# Altium schematic symbol library 2.2 - STM32 F0系列单片机.SchLib: 21 symbols (part 1 of 2)
Pins are listed as number, name and electrical type; pins without a type are passive.

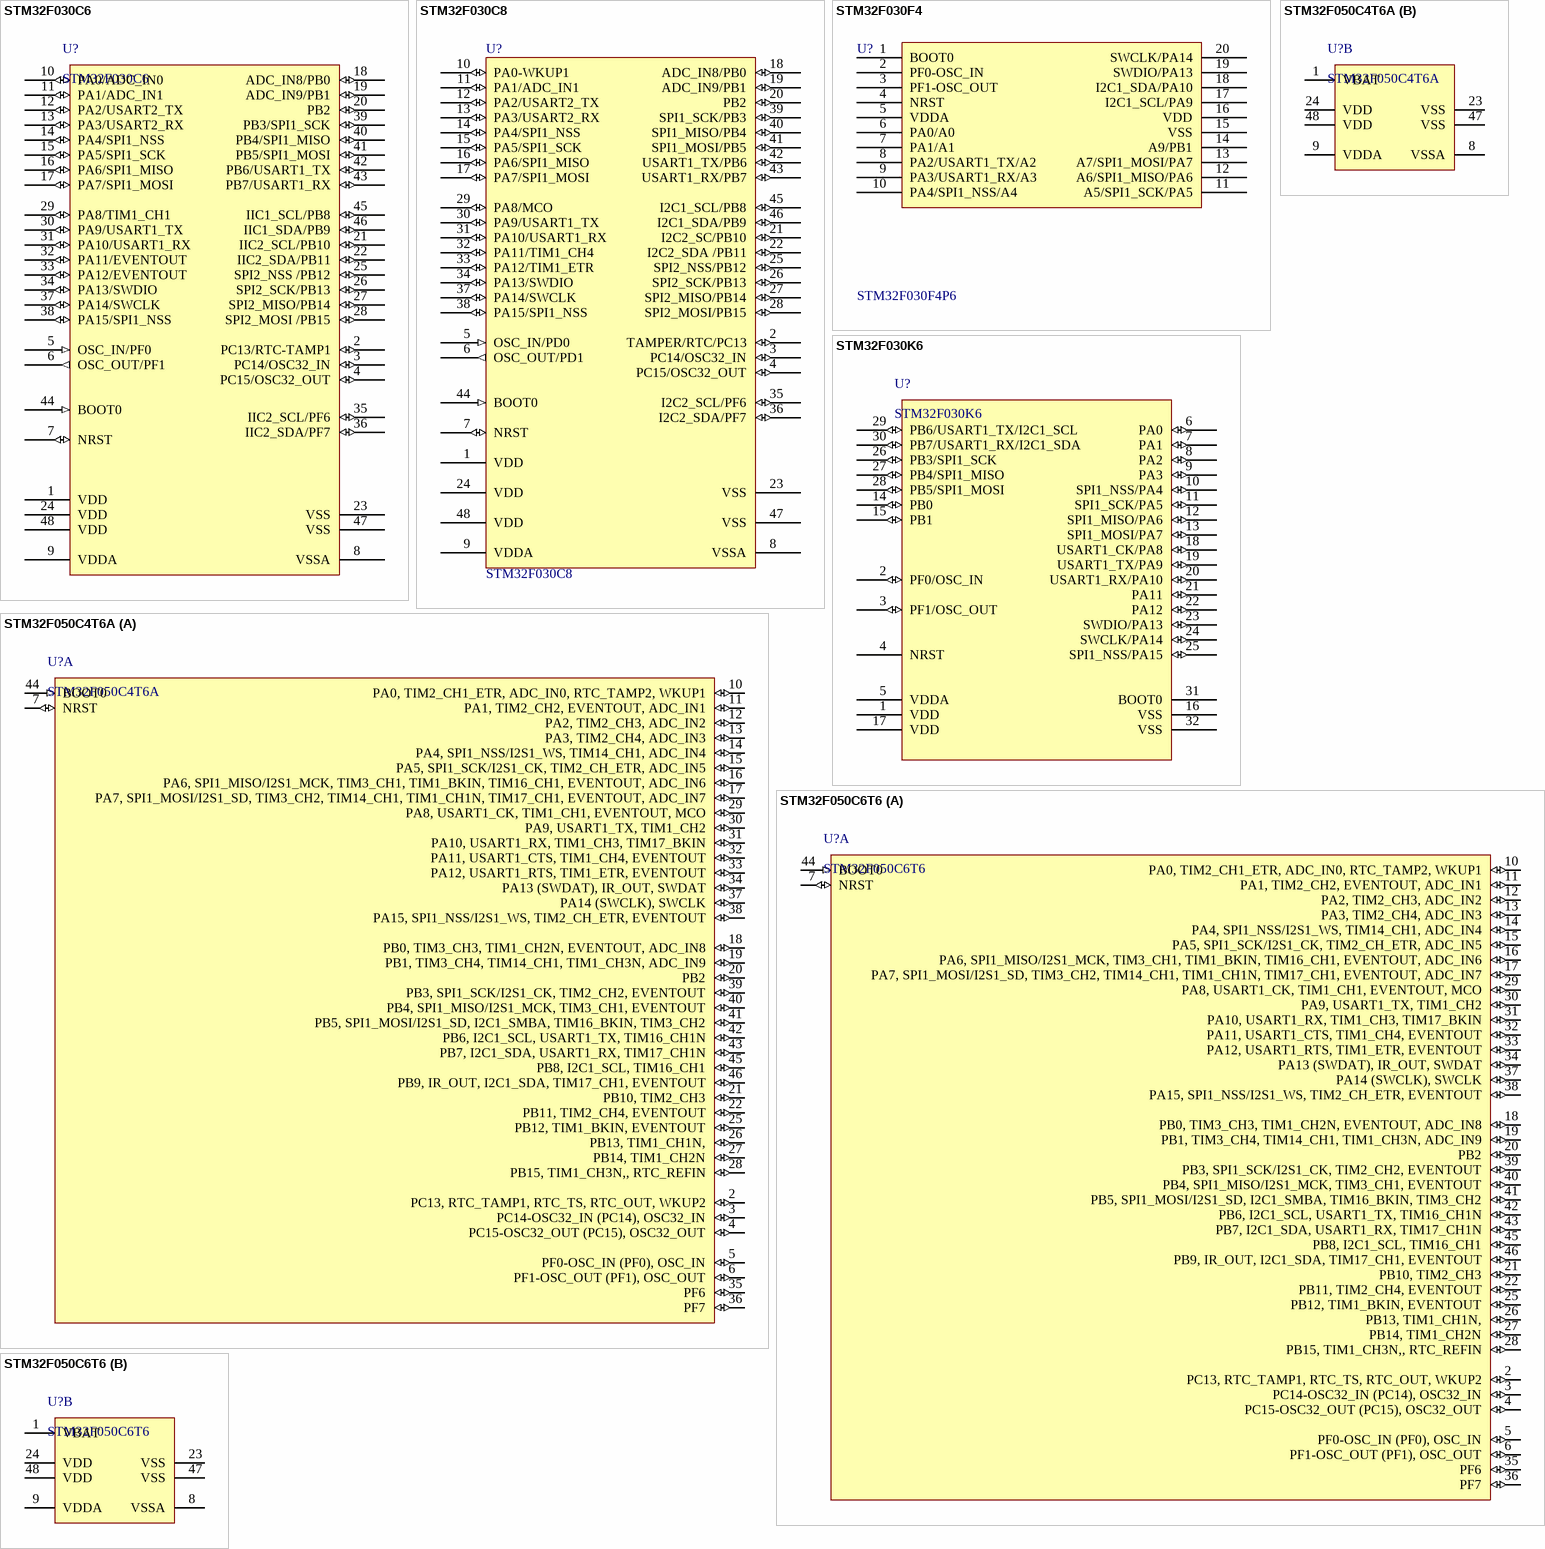
[diagram p0: symbols STM32F030C6 to STM32F050C6T6]

## STM32F030C6
designator U?
32位STM单片机; 版权归属: 源创客; BOM名称: 32位STM单片机; 学习资源: www.ooocke.com
footprint LQFP48 7X7_N (48脚，体宽7x7mm，脚距0.5mm)
footprint LQFP48 7X7_L (48脚，体宽7x7mm，脚距0.5mm)
footprint LQFP48 7X7_M (48脚，体宽7x7mm，脚距0.5mm)
pins: 1 VDD (power), 2 PC13/RTC-TAMP1 (io), 3 PC14/OSC32_IN (io), 4 PC15/OSC32_OUT (io), 5 OSC_IN/PF0 (in), 6 OSC_OUT/PF1 (out), 7 NRST (io), 8 VSSA (power), 9 VDDA (power), 10 PA0/ADC_IN0 (io), 11 PA1/ADC_IN1 (io), 12 PA2/USART2_TX (io), 13 PA3/USART2_RX (io), 14 PA4/SPI1_NSS (io), 15 PA5/SPI1_SCK (io), 16 PA6/SPI1_MISO (io), 17 PA7/SPI1_MOSI (io), 18 ADC_IN8/PB0 (io), 19 ADC_IN9/PB1 (io), 20 PB2 (io), 21 IIC2_SCL/PB10 (io), 22 IIC2_SDA/PB11 (io), 23 VSS (power), 24 VDD (power), 25 SPI2_NSS /PB12 (io), 26 SPI2_SCK/PB13 (io), 27 SPI2_MISO/PB14 (io), 28 SPI2_MOSI /PB15 (io), 29 PA8/TIM1_CH1 (io), 30 PA9/USART1_TX (io), 31 PA10/USART1_RX (io), 32 PA11/EVENTOUT (io), 33 PA12/EVENTOUT (io), 34 PA13/SWDIO (io), 35 IIC2_SCL/PF6 (io), 36 IIC2_SDA/PF7 (io), 37 PA14/SWCLK (io), 38 PA15/SPI1_NSS (io), 39 PB3/SPI1_SCK (io), 40 PB4/SPI1_MISO (io), 41 PB5/SPI1_MOSI (io), 42 PB6/USART1_TX (io), 43 PB7/USART1_RX (io), 44 BOOT0 (in), 45 IIC1_SCL/PB8 (io), 46 IIC1_SDA/PB9 (io), 47 VSS (power), 48 VDD (power)

## STM32F030C8
designator U?
Flaah:64/RAM:8/IO:39; BOM名称: 32位STM单片机; 版权归属: 源创客; 学习资源: www.ooocke.com
footprint LQFP48 7X7_N (48脚，体宽7x7mm，脚距0.5mm)
footprint LQFP48 7X7_M (48脚，体宽7x7mm，脚距0.5mm)
footprint LQFP48 7X7_L (48脚，体宽7x7mm，脚距0.5mm)
pins: 1 VDD (power), 2 TAMPER/RTC/PC13 (io), 3 PC14/OSC32_IN (io), 4 PC15/OSC32_OUT (io), 5 OSC_IN/PD0 (in), 6 OSC_OUT/PD1 (out), 7 NRST (io), 8 VSSA (power), 9 VDDA (power), 10 PA0-WKUP1 (io), 11 PA1/ADC_IN1 (io), 12 PA2/USART2_TX (io), 13 PA3/USART2_RX (io), 14 PA4/SPI1_NSS (io), 15 PA5/SPI1_SCK (io), 16 PA6/SPI1_MISO (io), 17 PA7/SPI1_MOSI (io), 18 ADC_IN8/PB0 (io), 19 ADC_IN9/PB1 (io), 20 PB2 (io), 21 I2C2_SC/PB10 (io), 22 I2C2_SDA /PB11 (io), 23 VSS (power), 24 VDD (power), 25 SPI2_NSS/PB12 (io), 26 SPI2_SCK/PB13 (io), 27 SPI2_MISO/PB14 (io), 28 SPI2_MOSI/PB15 (io), 29 PA8/MCO (io), 30 PA9/USART1_TX (io), 31 PA10/USART1_RX (io), 32 PA11/TIM1_CH4 (io), 33 PA12/TIM1_ETR (io), 34 PA13/SWDIO (io), 35 I2C2_SCL/PF6 (io), 36 I2C2_SDA/PF7 (io), 37 PA14/SWCLK (io), 38 PA15/SPI1_NSS (io), 39 SPI1_SCK/PB3 (io), 40 SPI1_MISO/PB4 (io), 41 SPI1_MOSI/PB5 (io), 42 USART1_TX/PB6 (io), 43 USART1_RX/PB7 (io), 44 BOOT0 (in), 45 I2C1_SCL/PB8 (io), 46 I2C1_SDA/PB9 (io), 47 VSS (power), 48 VDD (power)

## STM32F030F4
designator U?, comment STM32F030F4P6
Flash: 16K/RAM: 4K/IO: 15; BOM名称: 32位单片机; 版权归属: 源创客; 学习资源: www.ooocke.com
footprint TSSOP20_N (6.5*6.4*1（长宽高）)
footprint TSSOP20_L (6.5*6.4*1（长宽高）)
footprint TSSOP20_M (6.5*6.4*1（长宽高）)
pins: 1 BOOT0, 2 PF0-OSC_IN, 3 PF1-OSC_OUT, 4 NRST, 5 VDDA, 6 PA0/A0, 7 PA1/A1, 8 PA2/USART1_TX/A2, 9 PA3/USART1_RX/A3, 10 PA4/SPI1_NSS/A4, 11 A5/SPI1_SCK/PA5, 12 A6/SPI1_MISO/PA6, 13 A7/SPI1_MOSI/PA7, 14 A9/PB1, 15 VSS, 16 VDD, 17 I2C1_SCL/PA9, 18 I2C1_SDA/PA10, 19 SWDIO/PA13, 20 SWCLK/PA14

## STM32F030K6
designator U?
32位STM单片机; 版权归属: 源创客; BOM名称: 32位STM单片机; 学习资源: www.ooocke.com
footprint LQFP32 7X7_L (32脚，体宽7x7mm，脚距0.8mm)
footprint LQFP32 7X7_M (32脚，体宽7x7mm，脚距0.8mm)
footprint LQFP32 7X7_N (32脚，体宽7x7mm，脚距0.8mm)
pins: 1 VDD (power), 2 PF0/OSC_IN (io), 3 PF1/OSC_OUT (io), 4 NRST, 5 VDDA, 6 PA0 (io), 7 PA1 (io), 8 PA2 (io), 9 PA3 (io), 10 SPI1_NSS/PA4 (io), 11 SPI1_SCK/PA5 (io), 12 SPI1_MISO/PA6 (io), 13 SPI1_MOSI/PA7 (io), 14 PB0 (io), 15 PB1 (io), 16 VSS, 17 VDD, 18 USART1_CK/PA8 (io), 19 USART1_TX/PA9 (io), 20 USART1_RX/PA10 (io), 21 PA11 (io), 22 PA12 (io), 23 SWDIO/PA13 (io), 24 SWCLK/PA14 (io), 25 SPI1_NSS/PA15 (io), 26 PB3/SPI1_SCK (io), 27 PB4/SPI1_MISO (io), 28 PB5/SPI1_MOSI (io), 29 PB6/USART1_TX/I2C1_SCL (io), 30 PB7/USART1_RX/I2C1_SDA (io), 31 BOOT0, 32 VSS

## STM32F050C4T6A
designator U?
ARM Cortex-M0 32-bit RISC core (48 MHz max), 16kB Flash, 4 kB Internal RAM, 39 High Current I/Os, -40 to +85癈, 48-Pin LQFP, Tray; 16-bit timers (IC/OC/PWM): 5x16-bit; 32-bit timer (IC/OC/PWM): 1x32-bit; Other timer functions: 2 x WDG, RTC, 24-bit down counter; A/D Converter: 10x12-bit; Serial Interface: 1xSPI;1xI2S;1xI2C;1xUSART(IrDA, ISO 7816); Supply Current(Icc) (Lowest power mode) typ (礎): 1.65; Supply Current(Icc) (Run mode (per Mhz)) typ (礎): 250; DatasheetVersion: rev2, Feb-2012; PackageVersion: rev13, Apr-2011; PackageReference: LQFP48; PackageDescription: 48-Pin Low-Profile Quad Flat Pack, 7 x 7 mm Body, 0.5 mm Pitch (LQFP48); ComponentLink1Description: Manufacturer URL; ComponentLink1URL: 封装库来自淘宝卖家 ID：黄晶宝石; ComponentLink2Description: Datasheet; ComponentLink2URL: http://www.st.com/internet/com/TECHNICAL_RESOURCES/TECHNICAL_LITERATURE/DATA_BRIEF/DM00047078.pdf; ComponentLink3Description: STM32F0 Web Page; ComponentLink3URL: http://www.st.com/internet/mcu/subclass/1588.jsp
footprint LQFP48_N (Thin QFP, 48-Leads, Body 7x7mm, Pitch 0.5mm, IPC Medium Density)
footprint LQFP48_L (Thin QFP, 48-Leads, Body 7x7mm, Pitch 0.5mm, IPC High Density)
footprint LQFP48_M (Thin QFP, 48-Leads, Body 7x7mm, Pitch 0.5mm, IPC Low Density)
part A pins: 2 PC13, RTC_TAMP1, RTC_TS, RTC_OUT, WKUP2 (io), 3 PC14-OSC32_IN (PC14), OSC32_IN (io), 4 PC15-OSC32_OUT (PC15), OSC32_OUT (io), 5 PF0-OSC_IN (PF0), OSC_IN (io), 6 PF1-OSC_OUT (PF1), OSC_OUT (io), 7 NRST (io), 10 PA0, TIM2_CH1_ETR, ADC_IN0, RTC_TAMP2, WKUP1 (io), 11 PA1, TIM2_CH2, EVENTOUT, ADC_IN1 (io), 12 PA2, TIM2_CH3, ADC_IN2 (io), 13 PA3, TIM2_CH4, ADC_IN3 (io), 14 PA4, SPI1_NSS/I2S1_WS, TIM14_CH1, ADC_IN4 (io), 15 PA5, SPI1_SCK/I2S1_CK, TIM2_CH_ETR, ADC_IN5 (io), 16 PA6, SPI1_MISO/I2S1_MCK, TIM3_CH1, TIM1_BKIN, TIM16_CH1, EVENTOUT, ADC_IN6 (io), 17 PA7, SPI1_MOSI/I2S1_SD, TIM3_CH2, TIM14_CH1, TIM1_CH1N, TIM17_CH1, EVENTOUT, ADC_IN7 (io), 18 PB0, TIM3_CH3, TIM1_CH2N, EVENTOUT, ADC_IN8 (io), 19 PB1, TIM3_CH4, TIM14_CH1, TIM1_CH3N, ADC_IN9 (io), 20 PB2 (io), 21 PB10, TIM2_CH3 (io), 22 PB11, TIM2_CH4, EVENTOUT (io), 25 PB12, TIM1_BKIN, EVENTOUT (io), 26 PB13, TIM1_CH1N, (io), 27 PB14, TIM1_CH2N (io), 28 PB15, TIM1_CH3N,, RTC_REFIN (io), 29 PA8, USART1_CK, TIM1_CH1, EVENTOUT, MCO (io), 30 PA9, USART1_TX, TIM1_CH2 (io), 31 PA10, USART1_RX, TIM1_CH3, TIM17_BKIN (io), 32 PA11, USART1_CTS, TIM1_CH4, EVENTOUT (io), 33 PA12, USART1_RTS, TIM1_ETR, EVENTOUT (io), 34 PA13 (SWDAT), IR_OUT, SWDAT (io), 35 PF6 (io), 36 PF7 (io), 37 PA14 (SWCLK), SWCLK (io), 38 PA15, SPI1_NSS/I2S1_WS, TIM2_CH_ETR, EVENTOUT (io), 39 PB3, SPI1_SCK/I2S1_CK, TIM2_CH2, EVENTOUT (io), 40 PB4, SPI1_MISO/I2S1_MCK, TIM3_CH1, EVENTOUT (io), 41 PB5, SPI1_MOSI/I2S1_SD, I2C1_SMBA, TIM16_BKIN, TIM3_CH2 (io), 42 PB6, I2C1_SCL, USART1_TX, TIM16_CH1N (io), 43 PB7, I2C1_SDA, USART1_RX, TIM17_CH1N (io), 44 BOOT0 (in), 45 PB8, I2C1_SCL, TIM16_CH1 (io), 46 PB9, IR_OUT, I2C1_SDA, TIM17_CH1, EVENTOUT (io)
part B pins: 1 VBAT (power), 8 VSSA (power), 9 VDDA (power), 23 VSS (power), 24 VDD (power), 47 VSS (power), 48 VDD (power)

## STM32F050C6T6
designator U?
ARM Cortex-M0 32-bit RISC core (48 MHz max), 32kB Flash, 4 kB Internal RAM, 39 High Current I/Os, -40 to +85癈, 48-Pin LQFP, Tray; 16-bit timers (IC/OC/PWM): 5x16-bit; 32-bit timer (IC/OC/PWM): 1x32-bit; Other timer functions: 2 x WDG, RTC, 24-bit down counter; A/D Converter: 10x12-bit; Serial Interface: 1xSPI;1xI2S;1xI2C;1xUSART(IrDA, ISO 7816); Supply Current(Icc) (Lowest power mode) typ (礎): 1.65; Supply Current(Icc) (Run mode (per Mhz)) typ (礎): 250; DatasheetVersion: rev2, Feb-2012; PackageVersion: rev13, Apr-2011; PackageReference: LQFP48; PackageDescription: 48-Pin Low-Profile Quad Flat Pack, 7 x 7 mm Body, 0.5 mm Pitch (LQFP48); ComponentLink1Description: Manufacturer URL; ComponentLink1URL: https://shop463601444.taobao.com; ComponentLink2Description: Datasheet; ComponentLink2URL: http://www.st.com/internet/com/TECHNICAL_RESOURCES/TECHNICAL_LITERATURE/DATA_BRIEF/DM00047078.pdf; ComponentLink3Description: STM32F0 Web Page; ComponentLink3URL: http://www.st.com/internet/mcu/subclass/1588.jsp
footprint LQFP48_N (Thin QFP, 48-Leads, Body 7x7mm, Pitch 0.5mm, IPC Medium Density)
footprint LQFP48_L (Thin QFP, 48-Leads, Body 7x7mm, Pitch 0.5mm, IPC High Density)
footprint LQFP48_M (Thin QFP, 48-Leads, Body 7x7mm, Pitch 0.5mm, IPC Low Density)
part A pins: 2 PC13, RTC_TAMP1, RTC_TS, RTC_OUT, WKUP2 (io), 3 PC14-OSC32_IN (PC14), OSC32_IN (io), 4 PC15-OSC32_OUT (PC15), OSC32_OUT (io), 5 PF0-OSC_IN (PF0), OSC_IN (io), 6 PF1-OSC_OUT (PF1), OSC_OUT (io), 7 NRST (io), 10 PA0, TIM2_CH1_ETR, ADC_IN0, RTC_TAMP2, WKUP1 (io), 11 PA1, TIM2_CH2, EVENTOUT, ADC_IN1 (io), 12 PA2, TIM2_CH3, ADC_IN2 (io), 13 PA3, TIM2_CH4, ADC_IN3 (io), 14 PA4, SPI1_NSS/I2S1_WS, TIM14_CH1, ADC_IN4 (io), 15 PA5, SPI1_SCK/I2S1_CK, TIM2_CH_ETR, ADC_IN5 (io), 16 PA6, SPI1_MISO/I2S1_MCK, TIM3_CH1, TIM1_BKIN, TIM16_CH1, EVENTOUT, ADC_IN6 (io), 17 PA7, SPI1_MOSI/I2S1_SD, TIM3_CH2, TIM14_CH1, TIM1_CH1N, TIM17_CH1, EVENTOUT, ADC_IN7 (io), 18 PB0, TIM3_CH3, TIM1_CH2N, EVENTOUT, ADC_IN8 (io), 19 PB1, TIM3_CH4, TIM14_CH1, TIM1_CH3N, ADC_IN9 (io), 20 PB2 (io), 21 PB10, TIM2_CH3 (io), 22 PB11, TIM2_CH4, EVENTOUT (io), 25 PB12, TIM1_BKIN, EVENTOUT (io), 26 PB13, TIM1_CH1N, (io), 27 PB14, TIM1_CH2N (io), 28 PB15, TIM1_CH3N,, RTC_REFIN (io), 29 PA8, USART1_CK, TIM1_CH1, EVENTOUT, MCO (io), 30 PA9, USART1_TX, TIM1_CH2 (io), 31 PA10, USART1_RX, TIM1_CH3, TIM17_BKIN (io), 32 PA11, USART1_CTS, TIM1_CH4, EVENTOUT (io), 33 PA12, USART1_RTS, TIM1_ETR, EVENTOUT (io), 34 PA13 (SWDAT), IR_OUT, SWDAT (io), 35 PF6 (io), 36 PF7 (io), 37 PA14 (SWCLK), SWCLK (io), 38 PA15, SPI1_NSS/I2S1_WS, TIM2_CH_ETR, EVENTOUT (io), 39 PB3, SPI1_SCK/I2S1_CK, TIM2_CH2, EVENTOUT (io), 40 PB4, SPI1_MISO/I2S1_MCK, TIM3_CH1, EVENTOUT (io), 41 PB5, SPI1_MOSI/I2S1_SD, I2C1_SMBA, TIM16_BKIN, TIM3_CH2 (io), 42 PB6, I2C1_SCL, USART1_TX, TIM16_CH1N (io), 43 PB7, I2C1_SDA, USART1_RX, TIM17_CH1N (io), 44 BOOT0 (in), 45 PB8, I2C1_SCL, TIM16_CH1 (io), 46 PB9, IR_OUT, I2C1_SDA, TIM17_CH1, EVENTOUT (io)
part B pins: 1 VBAT (power), 8 VSSA (power), 9 VDDA (power), 23 VSS (power), 24 VDD (power), 47 VSS (power), 48 VDD (power)

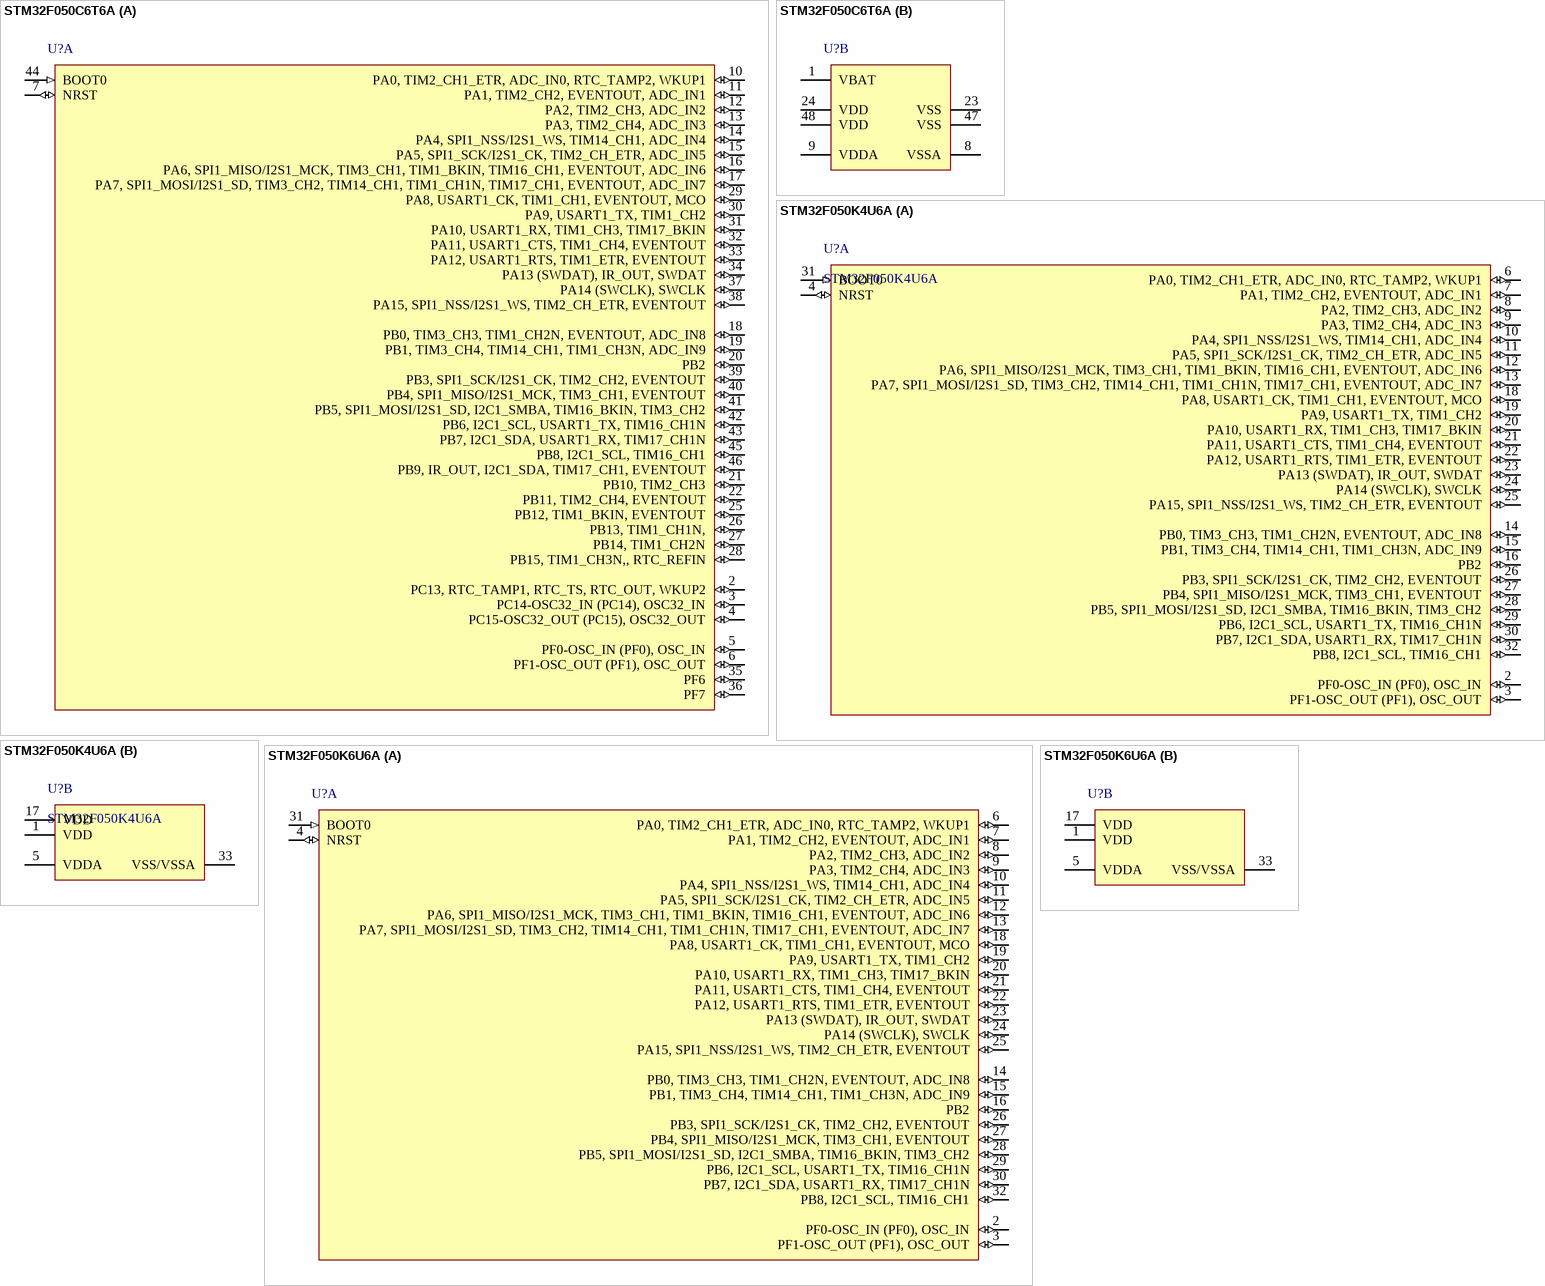
[diagram p1: symbols STM32F050C6T6A to STM32F050K6U6A]

## STM32F050C6T6A
designator U?
ARM Cortex-M0 32-bit RISC core (48 MHz max), 32kB Flash, 4 kB Internal RAM, 39 High Current I/Os, -40 to +85癈, 48-Pin LQFP, Tray; 16-bit timers (IC/OC/PWM): 5x16-bit; 32-bit timer (IC/OC/PWM): 1x32-bit; Other timer functions: 2 x WDG, RTC, 24-bit down counter; A/D Converter: 10x12-bit; Serial Interface: 1xSPI;1xI2S;1xI2C;1xUSART(IrDA, ISO 7816); Supply Current(Icc) (Lowest power mode) typ (礎): 1.65; Supply Current(Icc) (Run mode (per Mhz)) typ (礎): 250; DatasheetVersion: rev2, Feb-2012; PackageVersion: rev13, Apr-2011; PackageReference: LQFP48; PackageDescription: 48-Pin Low-Profile Quad Flat Pack, 7 x 7 mm Body, 0.5 mm Pitch (LQFP48); ComponentLink1Description: Manufacturer URL; ComponentLink1URL: http://www.st.com/; ComponentLink2Description: Datasheet; ComponentLink2URL: http://www.st.com/internet/com/TECHNICAL_RESOURCES/TECHNICAL_LITERATURE/DATA_BRIEF/DM00047078.pdf; ComponentLink3Description: STM32F0 Web Page; ComponentLink3URL: http://www.st.com/internet/mcu/subclass/1588.jsp
footprint LQFP48_N (Thin QFP, 48-Leads, Body 7x7mm, Pitch 0.5mm, IPC Medium Density)
footprint LQFP48_L (Thin QFP, 48-Leads, Body 7x7mm, Pitch 0.5mm, IPC High Density)
footprint LQFP48_M (Thin QFP, 48-Leads, Body 7x7mm, Pitch 0.5mm, IPC Low Density)
part A pins: 2 PC13, RTC_TAMP1, RTC_TS, RTC_OUT, WKUP2 (io), 3 PC14-OSC32_IN (PC14), OSC32_IN (io), 4 PC15-OSC32_OUT (PC15), OSC32_OUT (io), 5 PF0-OSC_IN (PF0), OSC_IN (io), 6 PF1-OSC_OUT (PF1), OSC_OUT (io), 7 NRST (io), 10 PA0, TIM2_CH1_ETR, ADC_IN0, RTC_TAMP2, WKUP1 (io), 11 PA1, TIM2_CH2, EVENTOUT, ADC_IN1 (io), 12 PA2, TIM2_CH3, ADC_IN2 (io), 13 PA3, TIM2_CH4, ADC_IN3 (io), 14 PA4, SPI1_NSS/I2S1_WS, TIM14_CH1, ADC_IN4 (io), 15 PA5, SPI1_SCK/I2S1_CK, TIM2_CH_ETR, ADC_IN5 (io), 16 PA6, SPI1_MISO/I2S1_MCK, TIM3_CH1, TIM1_BKIN, TIM16_CH1, EVENTOUT, ADC_IN6 (io), 17 PA7, SPI1_MOSI/I2S1_SD, TIM3_CH2, TIM14_CH1, TIM1_CH1N, TIM17_CH1, EVENTOUT, ADC_IN7 (io), 18 PB0, TIM3_CH3, TIM1_CH2N, EVENTOUT, ADC_IN8 (io), 19 PB1, TIM3_CH4, TIM14_CH1, TIM1_CH3N, ADC_IN9 (io), 20 PB2 (io), 21 PB10, TIM2_CH3 (io), 22 PB11, TIM2_CH4, EVENTOUT (io), 25 PB12, TIM1_BKIN, EVENTOUT (io), 26 PB13, TIM1_CH1N, (io), 27 PB14, TIM1_CH2N (io), 28 PB15, TIM1_CH3N,, RTC_REFIN (io), 29 PA8, USART1_CK, TIM1_CH1, EVENTOUT, MCO (io), 30 PA9, USART1_TX, TIM1_CH2 (io), 31 PA10, USART1_RX, TIM1_CH3, TIM17_BKIN (io), 32 PA11, USART1_CTS, TIM1_CH4, EVENTOUT (io), 33 PA12, USART1_RTS, TIM1_ETR, EVENTOUT (io), 34 PA13 (SWDAT), IR_OUT, SWDAT (io), 35 PF6 (io), 36 PF7 (io), 37 PA14 (SWCLK), SWCLK (io), 38 PA15, SPI1_NSS/I2S1_WS, TIM2_CH_ETR, EVENTOUT (io), 39 PB3, SPI1_SCK/I2S1_CK, TIM2_CH2, EVENTOUT (io), 40 PB4, SPI1_MISO/I2S1_MCK, TIM3_CH1, EVENTOUT (io), 41 PB5, SPI1_MOSI/I2S1_SD, I2C1_SMBA, TIM16_BKIN, TIM3_CH2 (io), 42 PB6, I2C1_SCL, USART1_TX, TIM16_CH1N (io), 43 PB7, I2C1_SDA, USART1_RX, TIM17_CH1N (io), 44 BOOT0 (in), 45 PB8, I2C1_SCL, TIM16_CH1 (io), 46 PB9, IR_OUT, I2C1_SDA, TIM17_CH1, EVENTOUT (io)
part B pins: 1 VBAT (power), 8 VSSA (power), 9 VDDA (power), 23 VSS (power), 24 VDD (power), 47 VSS (power), 48 VDD (power)

## STM32F050K4U6A
designator U?
ARM Cortex-M0 32-bit RISC core (48 MHz max), 16kB Flash, 4 kB Internal RAM, 27 High Current I/Os, -40 to +85癈, 32-Pin UFQFPN, Tray; 16-bit timers (IC/OC/PWM): 5x16-bit; 32-bit timer (IC/OC/PWM): 1x32-bit; Other timer functions: 2 x WDG, RTC, 24-bit down counter; A/D Converter: 10x12-bit; Serial Interface: 1xSPI;1xI2S;1xI2C;1xUSART(IrDA, ISO 7816); Supply Current(Icc) (Lowest power mode) typ (礎): 1.65; Supply Current(Icc) (Run mode (per Mhz)) typ (礎): 250; DatasheetVersion: rev2, Feb-2012; PackageVersion: 2010; PackageReference: UFQFPN32; PackageDescription: 32-Pin Ultra Thin Fine Pitch Quad Flat No-Lead, 5 x 5 X 0.6 mm Body, 0.5 mm Pitch, Exposed Pad; ComponentLink1Description: Manufacturer URL; ComponentLink1URL: https://shop463601444.taobao.com; ComponentLink2Description: Datasheet; ComponentLink2URL: http://www.st.com/internet/com/TECHNICAL_RESOURCES/TECHNICAL_LITERATURE/DATA_BRIEF/DM00047078.pdf; ComponentLink3Description: STM32F0 Web Page; ComponentLink3URL: http://www.st.com/internet/mcu/subclass/1588.jsp
footprint UFQFPN32_N (QFN, 32-Leads, Body 5x5mm, Pitch 0.5mm, Thermal Pad 3.6x3.6mm, IPC Medium Density)
footprint UFQFPN32_L (QFN, 32-Leads, Body 5x5mm, Pitch 0.5mm, Thermal Pad 3.6x3.6mm, IPC High Density)
footprint UFQFPN32_M (QFN, 32-Leads, Body 5x5mm, Pitch 0.5mm, Thermal Pad 3.6x3.6mm, IPC Low Density)
part A pins: 2 PF0-OSC_IN (PF0), OSC_IN (io), 3 PF1-OSC_OUT (PF1), OSC_OUT (io), 4 NRST (io), 6 PA0, TIM2_CH1_ETR, ADC_IN0, RTC_TAMP2, WKUP1 (io), 7 PA1, TIM2_CH2, EVENTOUT, ADC_IN1 (io), 8 PA2, TIM2_CH3, ADC_IN2 (io), 9 PA3, TIM2_CH4, ADC_IN3 (io), 10 PA4, SPI1_NSS/I2S1_WS, TIM14_CH1, ADC_IN4 (io), 11 PA5, SPI1_SCK/I2S1_CK, TIM2_CH_ETR, ADC_IN5 (io), 12 PA6, SPI1_MISO/I2S1_MCK, TIM3_CH1, TIM1_BKIN, TIM16_CH1, EVENTOUT, ADC_IN6 (io), 13 PA7, SPI1_MOSI/I2S1_SD, TIM3_CH2, TIM14_CH1, TIM1_CH1N, TIM17_CH1, EVENTOUT, ADC_IN7 (io), 14 PB0, TIM3_CH3, TIM1_CH2N, EVENTOUT, ADC_IN8 (io), 15 PB1, TIM3_CH4, TIM14_CH1, TIM1_CH3N, ADC_IN9 (io), 16 PB2 (io), 18 PA8, USART1_CK, TIM1_CH1, EVENTOUT, MCO (io), 19 PA9, USART1_TX, TIM1_CH2 (io), 20 PA10, USART1_RX, TIM1_CH3, TIM17_BKIN (io), 21 PA11, USART1_CTS, TIM1_CH4, EVENTOUT (io), 22 PA12, USART1_RTS, TIM1_ETR, EVENTOUT (io), 23 PA13 (SWDAT), IR_OUT, SWDAT (io), 24 PA14 (SWCLK), SWCLK (io), 25 PA15, SPI1_NSS/I2S1_WS, TIM2_CH_ETR, EVENTOUT (io), 26 PB3, SPI1_SCK/I2S1_CK, TIM2_CH2, EVENTOUT (io), 27 PB4, SPI1_MISO/I2S1_MCK, TIM3_CH1, EVENTOUT (io), 28 PB5, SPI1_MOSI/I2S1_SD, I2C1_SMBA, TIM16_BKIN, TIM3_CH2 (io), 29 PB6, I2C1_SCL, USART1_TX, TIM16_CH1N (io), 30 PB7, I2C1_SDA, USART1_RX, TIM17_CH1N (io), 31 BOOT0 (in), 32 PB8, I2C1_SCL, TIM16_CH1 (io)
part B pins: 1 VDD (power), 5 VDDA (power), 17 VDD (power), 33 VSS/VSSA (power)

## STM32F050K6U6A
designator U?
ARM Cortex-M0 32-bit RISC core (48 MHz max), 32kB Flash, 4 kB Internal RAM, 27 High Current I/Os, -40 to +85癈, 32-Pin UFQFPN, Tray; 16-bit timers (IC/OC/PWM): 5x16-bit; 32-bit timer (IC/OC/PWM): 1x32-bit; Other timer functions: 2 x WDG, RTC, 24-bit down counter; A/D Converter: 10x12-bit; Serial Interface: 1xSPI;1xI2S;1xI2C;1xUSART(IrDA, ISO 7816); Supply Current(Icc) (Lowest power mode) typ (礎): 1.65; Supply Current(Icc) (Run mode (per Mhz)) typ (礎): 250; DatasheetVersion: rev2, Feb-2012; PackageVersion: 2010; PackageReference: UFQFPN32; PackageDescription: 32-Pin Ultra Thin Fine Pitch Quad Flat No-Lead, 5 x 5 X 0.6 mm Body, 0.5 mm Pitch, Exposed Pad; ComponentLink1Description: Manufacturer URL; ComponentLink1URL: http://www.st.com/; ComponentLink2Description: Datasheet; ComponentLink2URL: http://www.st.com/internet/com/TECHNICAL_RESOURCES/TECHNICAL_LITERATURE/DATA_BRIEF/DM00047078.pdf; ComponentLink3Description: STM32F0 Web Page; ComponentLink3URL: http://www.st.com/internet/mcu/subclass/1588.jsp
footprint UFQFPN32_N (QFN, 32-Leads, Body 5x5mm, Pitch 0.5mm, Thermal Pad 3.6x3.6mm, IPC Medium Density)
footprint UFQFPN32_L (QFN, 32-Leads, Body 5x5mm, Pitch 0.5mm, Thermal Pad 3.6x3.6mm, IPC High Density)
footprint UFQFPN32_M (QFN, 32-Leads, Body 5x5mm, Pitch 0.5mm, Thermal Pad 3.6x3.6mm, IPC Low Density)
part A pins: 2 PF0-OSC_IN (PF0), OSC_IN (io), 3 PF1-OSC_OUT (PF1), OSC_OUT (io), 4 NRST (io), 6 PA0, TIM2_CH1_ETR, ADC_IN0, RTC_TAMP2, WKUP1 (io), 7 PA1, TIM2_CH2, EVENTOUT, ADC_IN1 (io), 8 PA2, TIM2_CH3, ADC_IN2 (io), 9 PA3, TIM2_CH4, ADC_IN3 (io), 10 PA4, SPI1_NSS/I2S1_WS, TIM14_CH1, ADC_IN4 (io), 11 PA5, SPI1_SCK/I2S1_CK, TIM2_CH_ETR, ADC_IN5 (io), 12 PA6, SPI1_MISO/I2S1_MCK, TIM3_CH1, TIM1_BKIN, TIM16_CH1, EVENTOUT, ADC_IN6 (io), 13 PA7, SPI1_MOSI/I2S1_SD, TIM3_CH2, TIM14_CH1, TIM1_CH1N, TIM17_CH1, EVENTOUT, ADC_IN7 (io), 14 PB0, TIM3_CH3, TIM1_CH2N, EVENTOUT, ADC_IN8 (io), 15 PB1, TIM3_CH4, TIM14_CH1, TIM1_CH3N, ADC_IN9 (io), 16 PB2 (io), 18 PA8, USART1_CK, TIM1_CH1, EVENTOUT, MCO (io), 19 PA9, USART1_TX, TIM1_CH2 (io), 20 PA10, USART1_RX, TIM1_CH3, TIM17_BKIN (io), 21 PA11, USART1_CTS, TIM1_CH4, EVENTOUT (io), 22 PA12, USART1_RTS, TIM1_ETR, EVENTOUT (io), 23 PA13 (SWDAT), IR_OUT, SWDAT (io), 24 PA14 (SWCLK), SWCLK (io), 25 PA15, SPI1_NSS/I2S1_WS, TIM2_CH_ETR, EVENTOUT (io), 26 PB3, SPI1_SCK/I2S1_CK, TIM2_CH2, EVENTOUT (io), 27 PB4, SPI1_MISO/I2S1_MCK, TIM3_CH1, EVENTOUT (io), 28 PB5, SPI1_MOSI/I2S1_SD, I2C1_SMBA, TIM16_BKIN, TIM3_CH2 (io), 29 PB6, I2C1_SCL, USART1_TX, TIM16_CH1N (io), 30 PB7, I2C1_SDA, USART1_RX, TIM17_CH1N (io), 31 BOOT0 (in), 32 PB8, I2C1_SCL, TIM16_CH1 (io)
part B pins: 1 VDD (power), 5 VDDA (power), 17 VDD (power), 33 VSS/VSSA (power)

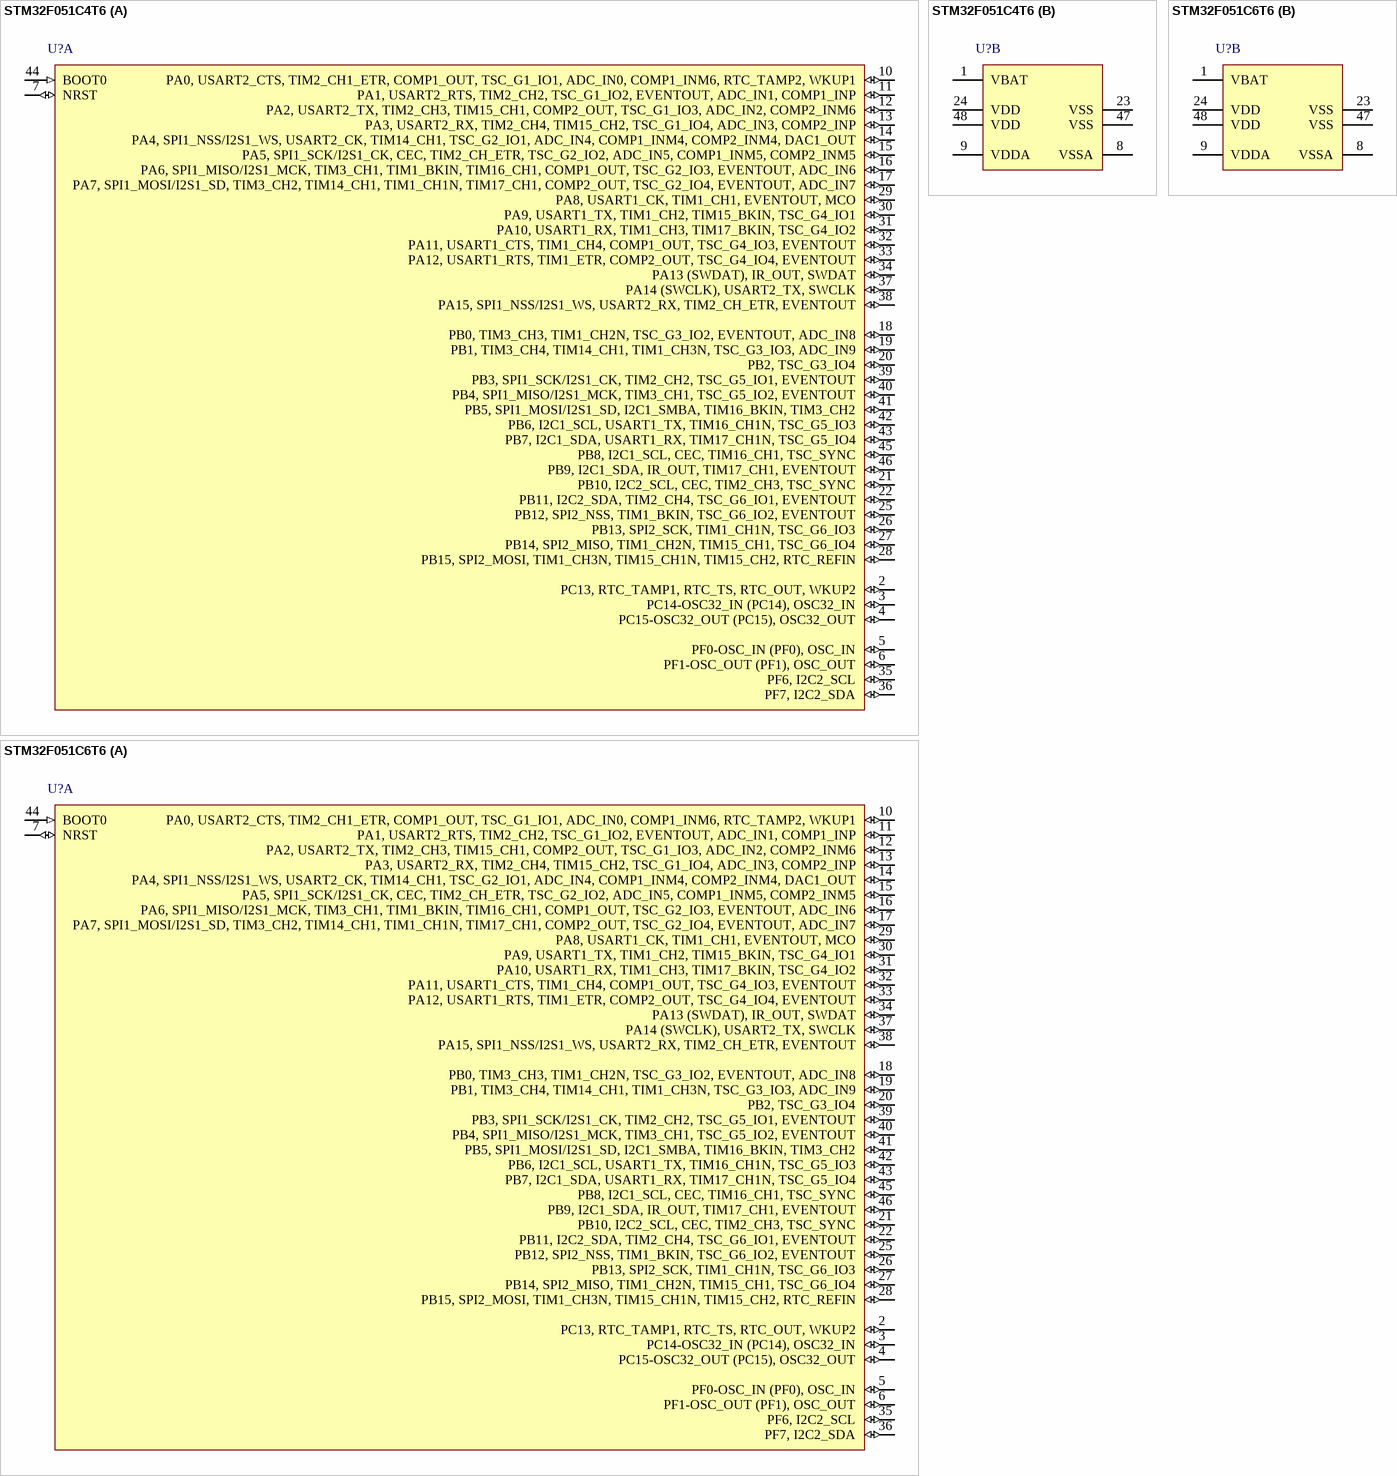
[diagram p2: symbols STM32F051C4T6 to STM32F051C6T6]

## STM32F051C4T6
designator U?
ARM Cortex-M0 32-bit RISC core (48 MHz max), 16kB Flash, 4 kB Internal RAM, 39 High Current I/Os, -40 to +85癈, 48-Pin LQFP, Tray; 16-bit timers (IC/OC/PWM): 8x16-bit; 32-bit timer (IC/OC/PWM): 1x32-bit; Other timer functions: 2 x WDG, RTC, 24-bit down counter; A/D Converter: 10x12-bit; Serial Interface: 1xSPI/I2S;1xI2C;1xUSART(IrDA, ISO 7816);CEC; Supply Current(Icc) (Lowest power mode) typ (礎): 1.65; Supply Current(Icc) (Run mode (per Mhz)) typ (礎): 250; DatasheetVersion: rev1, Apr-2012; PackageVersion: rev13, Apr-2011; PackageReference: LQFP48; PackageDescription: 48-Pin Low-Profile Quad Flat Pack, 7 x 7 mm Body, 0.5 mm Pitch (LQFP48); ComponentLink1Description: Manufacturer URL; ComponentLink1URL: http://www.st.com/; ComponentLink2Description: Datasheet; ComponentLink2URL: http://www.st.com/internet/com/TECHNICAL_RESOURCES/TECHNICAL_LITERATURE/DATASHEET/DM00039193.pdf; ComponentLink3Description: STM32F0 Web Page; ComponentLink3URL: http://www.st.com/internet/mcu/subclass/1588.jsp
footprint LQFP48_N (Thin QFP, 48-Leads, Body 7x7mm, Pitch 0.5mm, IPC Medium Density)
footprint LQFP48_L (Thin QFP, 48-Leads, Body 7x7mm, Pitch 0.5mm, IPC High Density)
footprint LQFP48_M (Thin QFP, 48-Leads, Body 7x7mm, Pitch 0.5mm, IPC Low Density)
part A pins: 2 PC13, RTC_TAMP1, RTC_TS, RTC_OUT, WKUP2 (io), 3 PC14-OSC32_IN (PC14), OSC32_IN (io), 4 PC15-OSC32_OUT (PC15), OSC32_OUT (io), 5 PF0-OSC_IN (PF0), OSC_IN (io), 6 PF1-OSC_OUT (PF1), OSC_OUT (io), 7 NRST (io), 10 PA0, USART2_CTS, TIM2_CH1_ETR, COMP1_OUT, TSC_G1_IO1, ADC_IN0, COMP1_INM6, RTC_TAMP2, WKUP1 (io), 11 PA1, USART2_RTS, TIM2_CH2, TSC_G1_IO2, EVENTOUT, ADC_IN1, COMP1_INP (io), 12 PA2, USART2_TX, TIM2_CH3, TIM15_CH1, COMP2_OUT, TSC_G1_IO3, ADC_IN2, COMP2_INM6 (io), 13 PA3, USART2_RX, TIM2_CH4, TIM15_CH2, TSC_G1_IO4, ADC_IN3, COMP2_INP (io), 14 PA4, SPI1_NSS/I2S1_WS, USART2_CK, TIM14_CH1, TSC_G2_IO1, ADC_IN4, COMP1_INM4, COMP2_INM4, DAC1_OUT (io), 15 PA5, SPI1_SCK/I2S1_CK, CEC, TIM2_CH_ETR, TSC_G2_IO2, ADC_IN5, COMP1_INM5, COMP2_INM5 (io), 16 PA6, SPI1_MISO/I2S1_MCK, TIM3_CH1, TIM1_BKIN, TIM16_CH1, COMP1_OUT, TSC_G2_IO3, EVENTOUT, ADC_IN6 (io), 17 PA7, SPI1_MOSI/I2S1_SD, TIM3_CH2, TIM14_CH1, TIM1_CH1N, TIM17_CH1, COMP2_OUT, TSC_G2_IO4, EVENTOUT, ADC_IN7 (io), 18 PB0, TIM3_CH3, TIM1_CH2N, TSC_G3_IO2, EVENTOUT, ADC_IN8 (io), 19 PB1, TIM3_CH4, TIM14_CH1, TIM1_CH3N, TSC_G3_IO3, ADC_IN9 (io), 20 PB2, TSC_G3_IO4 (io), 21 PB10, I2C2_SCL, CEC, TIM2_CH3, TSC_SYNC (io), 22 PB11, I2C2_SDA, TIM2_CH4, TSC_G6_IO1, EVENTOUT (io), 25 PB12, SPI2_NSS, TIM1_BKIN, TSC_G6_IO2, EVENTOUT (io), 26 PB13, SPI2_SCK, TIM1_CH1N, TSC_G6_IO3 (io), 27 PB14, SPI2_MISO, TIM1_CH2N, TIM15_CH1, TSC_G6_IO4 (io), 28 PB15, SPI2_MOSI, TIM1_CH3N, TIM15_CH1N, TIM15_CH2, RTC_REFIN (io), 29 PA8, USART1_CK, TIM1_CH1, EVENTOUT, MCO (io), 30 PA9, USART1_TX, TIM1_CH2, TIM15_BKIN, TSC_G4_IO1 (io), 31 PA10, USART1_RX, TIM1_CH3, TIM17_BKIN, TSC_G4_IO2 (io), 32 PA11, USART1_CTS, TIM1_CH4, COMP1_OUT, TSC_G4_IO3, EVENTOUT (io), 33 PA12, USART1_RTS, TIM1_ETR, COMP2_OUT, TSC_G4_IO4, EVENTOUT (io), 34 PA13 (SWDAT), IR_OUT, SWDAT (io), 35 PF6, I2C2_SCL (io), 36 PF7, I2C2_SDA (io), 37 PA14 (SWCLK), USART2_TX, SWCLK (io), 38 PA15, SPI1_NSS/I2S1_WS, USART2_RX, TIM2_CH_ETR, EVENTOUT (io), 39 PB3, SPI1_SCK/I2S1_CK, TIM2_CH2, TSC_G5_IO1, EVENTOUT (io), 40 PB4, SPI1_MISO/I2S1_MCK, TIM3_CH1, TSC_G5_IO2, EVENTOUT (io), 41 PB5, SPI1_MOSI/I2S1_SD, I2C1_SMBA, TIM16_BKIN, TIM3_CH2 (io), 42 PB6, I2C1_SCL, USART1_TX, TIM16_CH1N, TSC_G5_IO3 (io), 43 PB7, I2C1_SDA, USART1_RX, TIM17_CH1N, TSC_G5_IO4 (io), 44 BOOT0 (in), 45 PB8, I2C1_SCL, CEC, TIM16_CH1, TSC_SYNC (io), 46 PB9, I2C1_SDA, IR_OUT, TIM17_CH1, EVENTOUT (io)
part B pins: 1 VBAT (power), 8 VSSA (power), 9 VDDA (power), 23 VSS (power), 24 VDD (power), 47 VSS (power), 48 VDD (power)

## STM32F051C6T6
designator U?
ARM Cortex-M0 32-bit RISC core (48 MHz max), 32kB Flash, 4 kB Internal RAM, 39 High Current I/Os, -40 to +85癈, 48-Pin LQFP, Tray; 16-bit timers (IC/OC/PWM): 8x16-bit; 32-bit timer (IC/OC/PWM): 1x32-bit; Other timer functions: 2 x WDG, RTC, 24-bit down counter; A/D Converter: 10x12-bit; Serial Interface: 1xSP/I2S;1xI2C;2xUSART(IrDA, ISO 7816);CEC; Supply Current(Icc) (Lowest power mode) typ (礎): 1.65; Supply Current(Icc) (Run mode (per Mhz)) typ (礎): 250; DatasheetVersion: rev1, Apr-2012; PackageVersion: rev13, Apr-2011; PackageReference: LQFP48; PackageDescription: 48-Pin Low-Profile Quad Flat Pack, 7 x 7 mm Body, 0.5 mm Pitch (LQFP48); ComponentLink1Description: Manufacturer URL; ComponentLink1URL: http://www.st.com/; ComponentLink2Description: Datasheet; ComponentLink2URL: http://www.st.com/internet/com/TECHNICAL_RESOURCES/TECHNICAL_LITERATURE/DATASHEET/DM00039193.pdf; ComponentLink3Description: STM32F0 Web Page; ComponentLink3URL: http://www.st.com/internet/mcu/subclass/1588.jsp
footprint LQFP48_N (Thin QFP, 48-Leads, Body 7x7mm, Pitch 0.5mm, IPC Medium Density)
footprint LQFP48_L (Thin QFP, 48-Leads, Body 7x7mm, Pitch 0.5mm, IPC High Density)
footprint LQFP48_M (Thin QFP, 48-Leads, Body 7x7mm, Pitch 0.5mm, IPC Low Density)
part A pins: 2 PC13, RTC_TAMP1, RTC_TS, RTC_OUT, WKUP2 (io), 3 PC14-OSC32_IN (PC14), OSC32_IN (io), 4 PC15-OSC32_OUT (PC15), OSC32_OUT (io), 5 PF0-OSC_IN (PF0), OSC_IN (io), 6 PF1-OSC_OUT (PF1), OSC_OUT (io), 7 NRST (io), 10 PA0, USART2_CTS, TIM2_CH1_ETR, COMP1_OUT, TSC_G1_IO1, ADC_IN0, COMP1_INM6, RTC_TAMP2, WKUP1 (io), 11 PA1, USART2_RTS, TIM2_CH2, TSC_G1_IO2, EVENTOUT, ADC_IN1, COMP1_INP (io), 12 PA2, USART2_TX, TIM2_CH3, TIM15_CH1, COMP2_OUT, TSC_G1_IO3, ADC_IN2, COMP2_INM6 (io), 13 PA3, USART2_RX, TIM2_CH4, TIM15_CH2, TSC_G1_IO4, ADC_IN3, COMP2_INP (io), 14 PA4, SPI1_NSS/I2S1_WS, USART2_CK, TIM14_CH1, TSC_G2_IO1, ADC_IN4, COMP1_INM4, COMP2_INM4, DAC1_OUT (io), 15 PA5, SPI1_SCK/I2S1_CK, CEC, TIM2_CH_ETR, TSC_G2_IO2, ADC_IN5, COMP1_INM5, COMP2_INM5 (io), 16 PA6, SPI1_MISO/I2S1_MCK, TIM3_CH1, TIM1_BKIN, TIM16_CH1, COMP1_OUT, TSC_G2_IO3, EVENTOUT, ADC_IN6 (io), 17 PA7, SPI1_MOSI/I2S1_SD, TIM3_CH2, TIM14_CH1, TIM1_CH1N, TIM17_CH1, COMP2_OUT, TSC_G2_IO4, EVENTOUT, ADC_IN7 (io), 18 PB0, TIM3_CH3, TIM1_CH2N, TSC_G3_IO2, EVENTOUT, ADC_IN8 (io), 19 PB1, TIM3_CH4, TIM14_CH1, TIM1_CH3N, TSC_G3_IO3, ADC_IN9 (io), 20 PB2, TSC_G3_IO4 (io), 21 PB10, I2C2_SCL, CEC, TIM2_CH3, TSC_SYNC (io), 22 PB11, I2C2_SDA, TIM2_CH4, TSC_G6_IO1, EVENTOUT (io), 25 PB12, SPI2_NSS, TIM1_BKIN, TSC_G6_IO2, EVENTOUT (io), 26 PB13, SPI2_SCK, TIM1_CH1N, TSC_G6_IO3 (io), 27 PB14, SPI2_MISO, TIM1_CH2N, TIM15_CH1, TSC_G6_IO4 (io), 28 PB15, SPI2_MOSI, TIM1_CH3N, TIM15_CH1N, TIM15_CH2, RTC_REFIN (io), 29 PA8, USART1_CK, TIM1_CH1, EVENTOUT, MCO (io), 30 PA9, USART1_TX, TIM1_CH2, TIM15_BKIN, TSC_G4_IO1 (io), 31 PA10, USART1_RX, TIM1_CH3, TIM17_BKIN, TSC_G4_IO2 (io), 32 PA11, USART1_CTS, TIM1_CH4, COMP1_OUT, TSC_G4_IO3, EVENTOUT (io), 33 PA12, USART1_RTS, TIM1_ETR, COMP2_OUT, TSC_G4_IO4, EVENTOUT (io), 34 PA13 (SWDAT), IR_OUT, SWDAT (io), 35 PF6, I2C2_SCL (io), 36 PF7, I2C2_SDA (io), 37 PA14 (SWCLK), USART2_TX, SWCLK (io), 38 PA15, SPI1_NSS/I2S1_WS, USART2_RX, TIM2_CH_ETR, EVENTOUT (io), 39 PB3, SPI1_SCK/I2S1_CK, TIM2_CH2, TSC_G5_IO1, EVENTOUT (io), 40 PB4, SPI1_MISO/I2S1_MCK, TIM3_CH1, TSC_G5_IO2, EVENTOUT (io), 41 PB5, SPI1_MOSI/I2S1_SD, I2C1_SMBA, TIM16_BKIN, TIM3_CH2 (io), 42 PB6, I2C1_SCL, USART1_TX, TIM16_CH1N, TSC_G5_IO3 (io), 43 PB7, I2C1_SDA, USART1_RX, TIM17_CH1N, TSC_G5_IO4 (io), 44 BOOT0 (in), 45 PB8, I2C1_SCL, CEC, TIM16_CH1, TSC_SYNC (io), 46 PB9, I2C1_SDA, IR_OUT, TIM17_CH1, EVENTOUT (io)
part B pins: 1 VBAT (power), 8 VSSA (power), 9 VDDA (power), 23 VSS (power), 24 VDD (power), 47 VSS (power), 48 VDD (power)

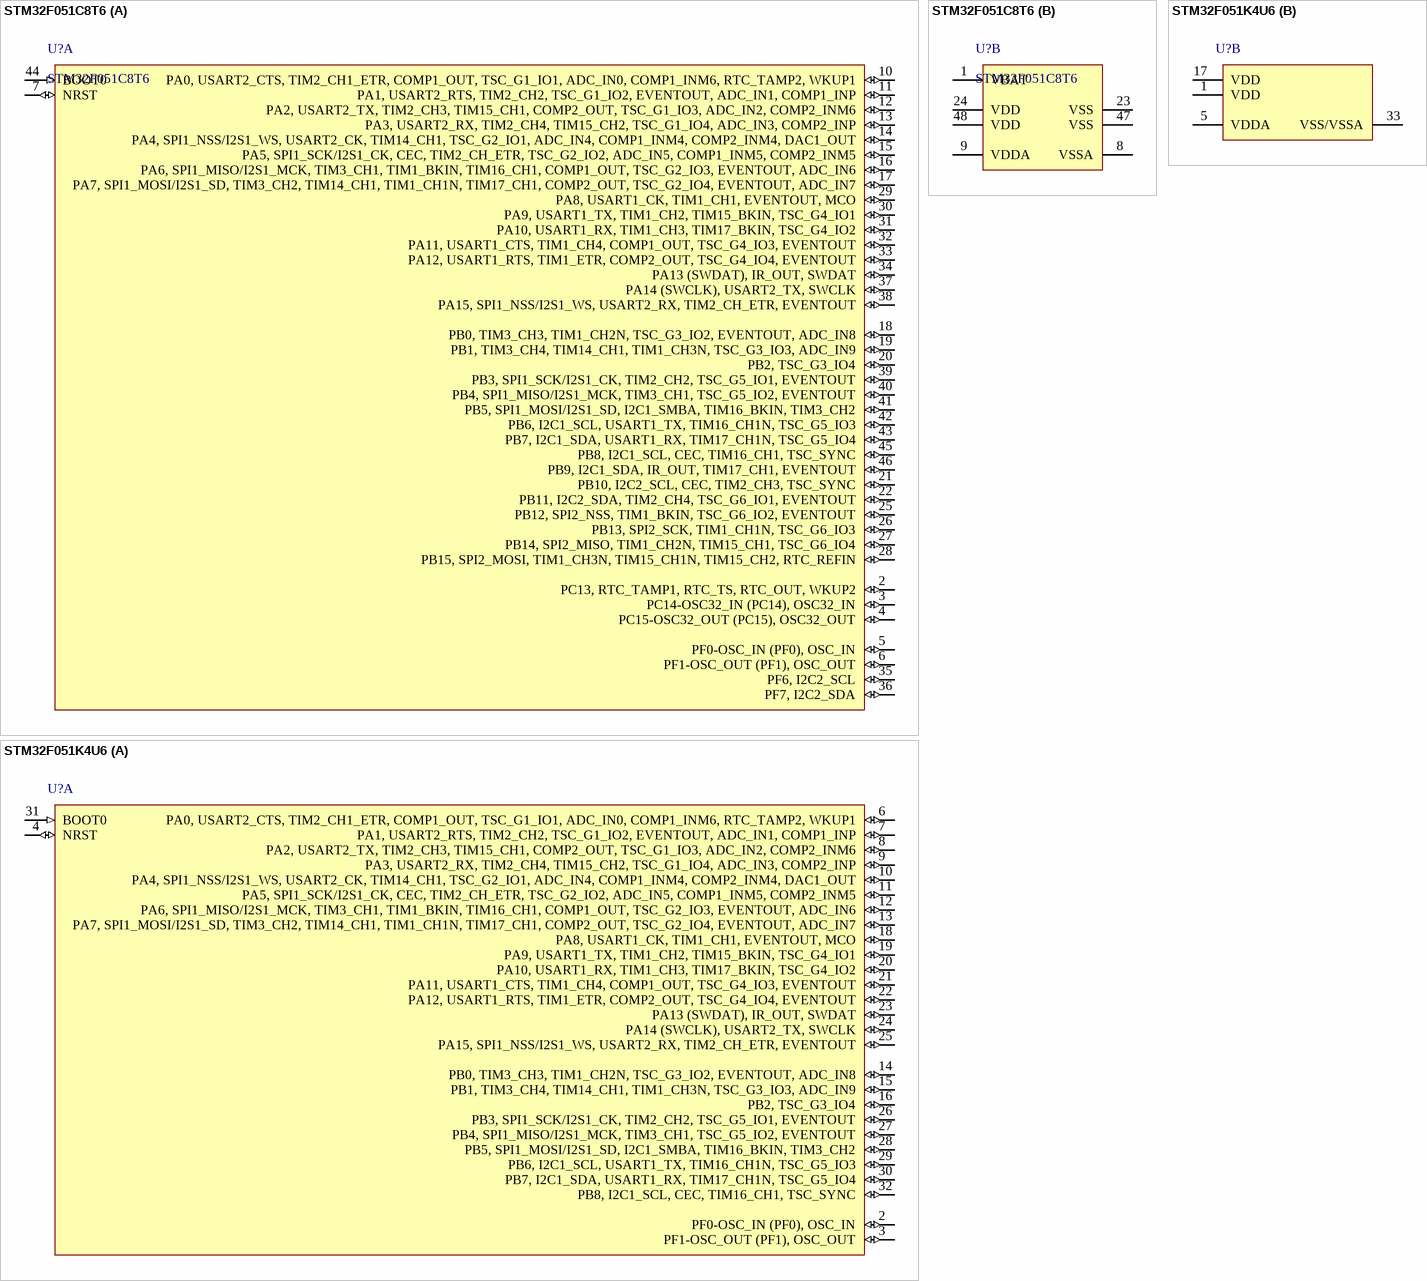
[diagram p3: symbols STM32F051C8T6 to STM32F051K4U6]

## STM32F051C8T6
designator U?
ARM Cortex-M0 32-bit RISC core (48 MHz max), 64kB Flash, 8 kB Internal RAM, 39 High Current I/Os, -40 to +85癈, 48-Pin LQFP, Tray; 16-bit timers (IC/OC/PWM): 8x16-bit; 32-bit timer (IC/OC/PWM): 1x32-bit; Other timer functions: 2 x WDG, RTC, 24-bit down counter; A/D Converter: 10x12-bit; Serial Interface: 1xSPI/I2S;1xSPI;2xI2C;2xUSART(IrDA, ISO 7816);CEC; Supply Current(Icc) (Lowest power mode) typ (礎): 1.65; Supply Current(Icc) (Run mode (per Mhz)) typ (礎): 250; DatasheetVersion: rev1, Apr-2012; PackageVersion: rev13, Apr-2011; PackageReference: LQFP48; PackageDescription: 48-Pin Low-Profile Quad Flat Pack, 7 x 7 mm Body, 0.5 mm Pitch (LQFP48); ComponentLink1Description: Manufacturer URL; ComponentLink1URL: 封装库来自淘宝卖家 ID：黄晶宝石; ComponentLink2Description: Datasheet; ComponentLink2URL: http://www.st.com/internet/com/TECHNICAL_RESOURCES/TECHNICAL_LITERATURE/DATASHEET/DM00039193.pdf; ComponentLink3Description: STM32F0 Web Page; ComponentLink3URL: http://www.st.com/internet/mcu/subclass/1588.jsp
footprint LQFP48_N (Thin QFP, 48-Leads, Body 7x7mm, Pitch 0.5mm, IPC Medium Density)
footprint LQFP48_L (Thin QFP, 48-Leads, Body 7x7mm, Pitch 0.5mm, IPC High Density)
footprint LQFP48_M (Thin QFP, 48-Leads, Body 7x7mm, Pitch 0.5mm, IPC Low Density)
part A pins: 2 PC13, RTC_TAMP1, RTC_TS, RTC_OUT, WKUP2 (io), 3 PC14-OSC32_IN (PC14), OSC32_IN (io), 4 PC15-OSC32_OUT (PC15), OSC32_OUT (io), 5 PF0-OSC_IN (PF0), OSC_IN (io), 6 PF1-OSC_OUT (PF1), OSC_OUT (io), 7 NRST (io), 10 PA0, USART2_CTS, TIM2_CH1_ETR, COMP1_OUT, TSC_G1_IO1, ADC_IN0, COMP1_INM6, RTC_TAMP2, WKUP1 (io), 11 PA1, USART2_RTS, TIM2_CH2, TSC_G1_IO2, EVENTOUT, ADC_IN1, COMP1_INP (io), 12 PA2, USART2_TX, TIM2_CH3, TIM15_CH1, COMP2_OUT, TSC_G1_IO3, ADC_IN2, COMP2_INM6 (io), 13 PA3, USART2_RX, TIM2_CH4, TIM15_CH2, TSC_G1_IO4, ADC_IN3, COMP2_INP (io), 14 PA4, SPI1_NSS/I2S1_WS, USART2_CK, TIM14_CH1, TSC_G2_IO1, ADC_IN4, COMP1_INM4, COMP2_INM4, DAC1_OUT (io), 15 PA5, SPI1_SCK/I2S1_CK, CEC, TIM2_CH_ETR, TSC_G2_IO2, ADC_IN5, COMP1_INM5, COMP2_INM5 (io), 16 PA6, SPI1_MISO/I2S1_MCK, TIM3_CH1, TIM1_BKIN, TIM16_CH1, COMP1_OUT, TSC_G2_IO3, EVENTOUT, ADC_IN6 (io), 17 PA7, SPI1_MOSI/I2S1_SD, TIM3_CH2, TIM14_CH1, TIM1_CH1N, TIM17_CH1, COMP2_OUT, TSC_G2_IO4, EVENTOUT, ADC_IN7 (io), 18 PB0, TIM3_CH3, TIM1_CH2N, TSC_G3_IO2, EVENTOUT, ADC_IN8 (io), 19 PB1, TIM3_CH4, TIM14_CH1, TIM1_CH3N, TSC_G3_IO3, ADC_IN9 (io), 20 PB2, TSC_G3_IO4 (io), 21 PB10, I2C2_SCL, CEC, TIM2_CH3, TSC_SYNC (io), 22 PB11, I2C2_SDA, TIM2_CH4, TSC_G6_IO1, EVENTOUT (io), 25 PB12, SPI2_NSS, TIM1_BKIN, TSC_G6_IO2, EVENTOUT (io), 26 PB13, SPI2_SCK, TIM1_CH1N, TSC_G6_IO3 (io), 27 PB14, SPI2_MISO, TIM1_CH2N, TIM15_CH1, TSC_G6_IO4 (io), 28 PB15, SPI2_MOSI, TIM1_CH3N, TIM15_CH1N, TIM15_CH2, RTC_REFIN (io), 29 PA8, USART1_CK, TIM1_CH1, EVENTOUT, MCO (io), 30 PA9, USART1_TX, TIM1_CH2, TIM15_BKIN, TSC_G4_IO1 (io), 31 PA10, USART1_RX, TIM1_CH3, TIM17_BKIN, TSC_G4_IO2 (io), 32 PA11, USART1_CTS, TIM1_CH4, COMP1_OUT, TSC_G4_IO3, EVENTOUT (io), 33 PA12, USART1_RTS, TIM1_ETR, COMP2_OUT, TSC_G4_IO4, EVENTOUT (io), 34 PA13 (SWDAT), IR_OUT, SWDAT (io), 35 PF6, I2C2_SCL (io), 36 PF7, I2C2_SDA (io), 37 PA14 (SWCLK), USART2_TX, SWCLK (io), 38 PA15, SPI1_NSS/I2S1_WS, USART2_RX, TIM2_CH_ETR, EVENTOUT (io), 39 PB3, SPI1_SCK/I2S1_CK, TIM2_CH2, TSC_G5_IO1, EVENTOUT (io), 40 PB4, SPI1_MISO/I2S1_MCK, TIM3_CH1, TSC_G5_IO2, EVENTOUT (io), 41 PB5, SPI1_MOSI/I2S1_SD, I2C1_SMBA, TIM16_BKIN, TIM3_CH2 (io), 42 PB6, I2C1_SCL, USART1_TX, TIM16_CH1N, TSC_G5_IO3 (io), 43 PB7, I2C1_SDA, USART1_RX, TIM17_CH1N, TSC_G5_IO4 (io), 44 BOOT0 (in), 45 PB8, I2C1_SCL, CEC, TIM16_CH1, TSC_SYNC (io), 46 PB9, I2C1_SDA, IR_OUT, TIM17_CH1, EVENTOUT (io)
part B pins: 1 VBAT (power), 8 VSSA (power), 9 VDDA (power), 23 VSS (power), 24 VDD (power), 47 VSS (power), 48 VDD (power)

## STM32F051K4U6
designator U?
ARM Cortex-M0 32-bit RISC core (48 MHz max), 16kB Flash, 4 kB Internal RAM, 27 High Current I/Os, -40 to +85癈, 32-Pin UFQFPN, Tray; 16-bit timers (IC/OC/PWM): 8x16-bit; 32-bit timer (IC/OC/PWM): 1x32-bit; Other timer functions: 2 x WDG, RTC, 24-bit down counter; A/D Converter: 10x12-bit; Serial Interface: 1xSPI/I2S;1xI2C;1xUSART(IrDA, ISO 7816);CEC; Supply Current(Icc) (Lowest power mode) typ (礎): 1.65; Supply Current(Icc) (Run mode (per Mhz)) typ (礎): 250; DatasheetVersion: rev1, Apr-2012; PackageVersion: 2010; PackageReference: UFQFPN32; PackageDescription: 32-Pin Ultra Thin Fine Pitch Quad Flat No-Lead, 5 x 5 X 0.6 mm Body, 0.5 mm Pitch, Exposed Pad; ComponentLink1Description: Manufacturer URL; ComponentLink1URL: http://www.st.com/; ComponentLink2Description: Datasheet; ComponentLink2URL: http://www.st.com/internet/com/TECHNICAL_RESOURCES/TECHNICAL_LITERATURE/DATASHEET/DM00039193.pdf; ComponentLink3Description: STM32F0 Web Page; ComponentLink3URL: http://www.st.com/internet/mcu/subclass/1588.jsp
footprint UFQFPN32_N (QFN, 32-Leads, Body 5x5mm, Pitch 0.5mm, Thermal Pad 3.6x3.6mm, IPC Medium Density)
footprint UFQFPN32_L (QFN, 32-Leads, Body 5x5mm, Pitch 0.5mm, Thermal Pad 3.6x3.6mm, IPC High Density)
footprint UFQFPN32_M (QFN, 32-Leads, Body 5x5mm, Pitch 0.5mm, Thermal Pad 3.6x3.6mm, IPC Low Density)
part A pins: 2 PF0-OSC_IN (PF0), OSC_IN (io), 3 PF1-OSC_OUT (PF1), OSC_OUT (io), 4 NRST (io), 6 PA0, USART2_CTS, TIM2_CH1_ETR, COMP1_OUT, TSC_G1_IO1, ADC_IN0, COMP1_INM6, RTC_TAMP2, WKUP1 (io), 7 PA1, USART2_RTS, TIM2_CH2, TSC_G1_IO2, EVENTOUT, ADC_IN1, COMP1_INP (io), 8 PA2, USART2_TX, TIM2_CH3, TIM15_CH1, COMP2_OUT, TSC_G1_IO3, ADC_IN2, COMP2_INM6 (io), 9 PA3, USART2_RX, TIM2_CH4, TIM15_CH2, TSC_G1_IO4, ADC_IN3, COMP2_INP (io), 10 PA4, SPI1_NSS/I2S1_WS, USART2_CK, TIM14_CH1, TSC_G2_IO1, ADC_IN4, COMP1_INM4, COMP2_INM4, DAC1_OUT (io), 11 PA5, SPI1_SCK/I2S1_CK, CEC, TIM2_CH_ETR, TSC_G2_IO2, ADC_IN5, COMP1_INM5, COMP2_INM5 (io), 12 PA6, SPI1_MISO/I2S1_MCK, TIM3_CH1, TIM1_BKIN, TIM16_CH1, COMP1_OUT, TSC_G2_IO3, EVENTOUT, ADC_IN6 (io), 13 PA7, SPI1_MOSI/I2S1_SD, TIM3_CH2, TIM14_CH1, TIM1_CH1N, TIM17_CH1, COMP2_OUT, TSC_G2_IO4, EVENTOUT, ADC_IN7 (io), 14 PB0, TIM3_CH3, TIM1_CH2N, TSC_G3_IO2, EVENTOUT, ADC_IN8 (io), 15 PB1, TIM3_CH4, TIM14_CH1, TIM1_CH3N, TSC_G3_IO3, ADC_IN9 (io), 16 PB2, TSC_G3_IO4 (io), 18 PA8, USART1_CK, TIM1_CH1, EVENTOUT, MCO (io), 19 PA9, USART1_TX, TIM1_CH2, TIM15_BKIN, TSC_G4_IO1 (io), 20 PA10, USART1_RX, TIM1_CH3, TIM17_BKIN, TSC_G4_IO2 (io), 21 PA11, USART1_CTS, TIM1_CH4, COMP1_OUT, TSC_G4_IO3, EVENTOUT (io), 22 PA12, USART1_RTS, TIM1_ETR, COMP2_OUT, TSC_G4_IO4, EVENTOUT (io), 23 PA13 (SWDAT), IR_OUT, SWDAT (io), 24 PA14 (SWCLK), USART2_TX, SWCLK (io), 25 PA15, SPI1_NSS/I2S1_WS, USART2_RX, TIM2_CH_ETR, EVENTOUT (io), 26 PB3, SPI1_SCK/I2S1_CK, TIM2_CH2, TSC_G5_IO1, EVENTOUT (io), 27 PB4, SPI1_MISO/I2S1_MCK, TIM3_CH1, TSC_G5_IO2, EVENTOUT (io), 28 PB5, SPI1_MOSI/I2S1_SD, I2C1_SMBA, TIM16_BKIN, TIM3_CH2 (io), 29 PB6, I2C1_SCL, USART1_TX, TIM16_CH1N, TSC_G5_IO3 (io), 30 PB7, I2C1_SDA, USART1_RX, TIM17_CH1N, TSC_G5_IO4 (io), 31 BOOT0 (in), 32 PB8, I2C1_SCL, CEC, TIM16_CH1, TSC_SYNC (io)
part B pins: 1 VDD (power), 5 VDDA (power), 17 VDD (power), 33 VSS/VSSA (power)

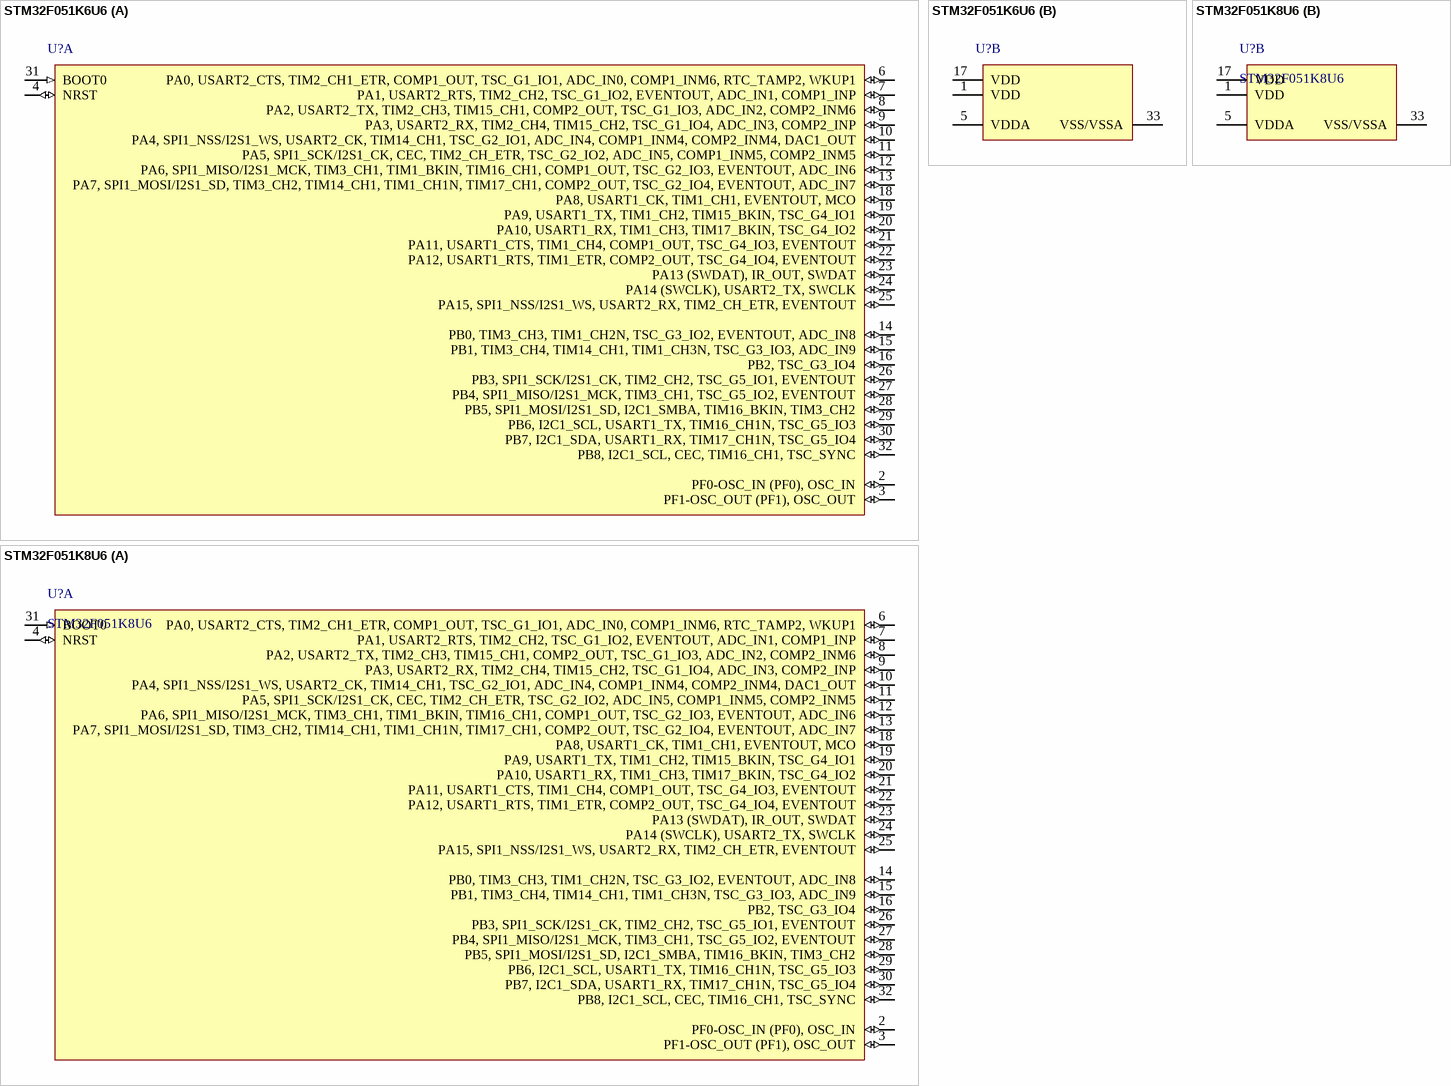
[diagram p4: symbols STM32F051K6U6 to STM32F051K8U6]

## STM32F051K6U6
designator U?
ARM Cortex-M0 32-bit RISC core (48 MHz max), 32kB Flash, 4 kB Internal RAM, 27 High Current I/Os, -40 to +85癈, 32-Pin UFQFPN, Tray; 16-bit timers (IC/OC/PWM): 8x16-bit; 32-bit timer (IC/OC/PWM): 1x32-bit; Other timer functions: 2 x WDG, RTC, 24-bit down counter; A/D Converter: 10x12-bit; Serial Interface: 1xSP/I2S;1xI2C;2xUSART(IrDA, ISO 7816);CEC; Supply Current(Icc) (Lowest power mode) typ (礎): 1.65; Supply Current(Icc) (Run mode (per Mhz)) typ (礎): 250; DatasheetVersion: rev1, Apr-2012; PackageVersion: 2010; PackageReference: UFQFPN32; PackageDescription: 32-Pin Ultra Thin Fine Pitch Quad Flat No-Lead, 5 x 5 X 0.6 mm Body, 0.5 mm Pitch, Exposed Pad; ComponentLink1Description: Manufacturer URL; ComponentLink1URL: http://www.st.com/; ComponentLink2Description: Datasheet; ComponentLink2URL: http://www.st.com/internet/com/TECHNICAL_RESOURCES/TECHNICAL_LITERATURE/DATASHEET/DM00039193.pdf; ComponentLink3Description: STM32F0 Web Page; ComponentLink3URL: http://www.st.com/internet/mcu/subclass/1588.jsp
footprint UFQFPN32_N (QFN, 32-Leads, Body 5x5mm, Pitch 0.5mm, Thermal Pad 3.6x3.6mm, IPC Medium Density)
footprint UFQFPN32_L (QFN, 32-Leads, Body 5x5mm, Pitch 0.5mm, Thermal Pad 3.6x3.6mm, IPC High Density)
footprint UFQFPN32_M (QFN, 32-Leads, Body 5x5mm, Pitch 0.5mm, Thermal Pad 3.6x3.6mm, IPC Low Density)
part A pins: 2 PF0-OSC_IN (PF0), OSC_IN (io), 3 PF1-OSC_OUT (PF1), OSC_OUT (io), 4 NRST (io), 6 PA0, USART2_CTS, TIM2_CH1_ETR, COMP1_OUT, TSC_G1_IO1, ADC_IN0, COMP1_INM6, RTC_TAMP2, WKUP1 (io), 7 PA1, USART2_RTS, TIM2_CH2, TSC_G1_IO2, EVENTOUT, ADC_IN1, COMP1_INP (io), 8 PA2, USART2_TX, TIM2_CH3, TIM15_CH1, COMP2_OUT, TSC_G1_IO3, ADC_IN2, COMP2_INM6 (io), 9 PA3, USART2_RX, TIM2_CH4, TIM15_CH2, TSC_G1_IO4, ADC_IN3, COMP2_INP (io), 10 PA4, SPI1_NSS/I2S1_WS, USART2_CK, TIM14_CH1, TSC_G2_IO1, ADC_IN4, COMP1_INM4, COMP2_INM4, DAC1_OUT (io), 11 PA5, SPI1_SCK/I2S1_CK, CEC, TIM2_CH_ETR, TSC_G2_IO2, ADC_IN5, COMP1_INM5, COMP2_INM5 (io), 12 PA6, SPI1_MISO/I2S1_MCK, TIM3_CH1, TIM1_BKIN, TIM16_CH1, COMP1_OUT, TSC_G2_IO3, EVENTOUT, ADC_IN6 (io), 13 PA7, SPI1_MOSI/I2S1_SD, TIM3_CH2, TIM14_CH1, TIM1_CH1N, TIM17_CH1, COMP2_OUT, TSC_G2_IO4, EVENTOUT, ADC_IN7 (io), 14 PB0, TIM3_CH3, TIM1_CH2N, TSC_G3_IO2, EVENTOUT, ADC_IN8 (io), 15 PB1, TIM3_CH4, TIM14_CH1, TIM1_CH3N, TSC_G3_IO3, ADC_IN9 (io), 16 PB2, TSC_G3_IO4 (io), 18 PA8, USART1_CK, TIM1_CH1, EVENTOUT, MCO (io), 19 PA9, USART1_TX, TIM1_CH2, TIM15_BKIN, TSC_G4_IO1 (io), 20 PA10, USART1_RX, TIM1_CH3, TIM17_BKIN, TSC_G4_IO2 (io), 21 PA11, USART1_CTS, TIM1_CH4, COMP1_OUT, TSC_G4_IO3, EVENTOUT (io), 22 PA12, USART1_RTS, TIM1_ETR, COMP2_OUT, TSC_G4_IO4, EVENTOUT (io), 23 PA13 (SWDAT), IR_OUT, SWDAT (io), 24 PA14 (SWCLK), USART2_TX, SWCLK (io), 25 PA15, SPI1_NSS/I2S1_WS, USART2_RX, TIM2_CH_ETR, EVENTOUT (io), 26 PB3, SPI1_SCK/I2S1_CK, TIM2_CH2, TSC_G5_IO1, EVENTOUT (io), 27 PB4, SPI1_MISO/I2S1_MCK, TIM3_CH1, TSC_G5_IO2, EVENTOUT (io), 28 PB5, SPI1_MOSI/I2S1_SD, I2C1_SMBA, TIM16_BKIN, TIM3_CH2 (io), 29 PB6, I2C1_SCL, USART1_TX, TIM16_CH1N, TSC_G5_IO3 (io), 30 PB7, I2C1_SDA, USART1_RX, TIM17_CH1N, TSC_G5_IO4 (io), 31 BOOT0 (in), 32 PB8, I2C1_SCL, CEC, TIM16_CH1, TSC_SYNC (io)
part B pins: 1 VDD (power), 5 VDDA (power), 17 VDD (power), 33 VSS/VSSA (power)

## STM32F051K8U6
designator U?
ARM Cortex-M0 32-bit RISC core (48 MHz max), 64kB Flash, 8 kB Internal RAM, 27 High Current I/Os, -40 to +85癈, 32-Pin UFQFPN, Tray; 16-bit timers (IC/OC/PWM): 8x16-bit; 32-bit timer (IC/OC/PWM): 1x32-bit; Other timer functions: 2 x WDG, RTC, 24-bit down counter; A/D Converter: 10x12-bit; Serial Interface: 1xSPI/I2S;1xSPI;2xI2C;2xUSART(IrDA, ISO 7816);CEC; Supply Current(Icc) (Lowest power mode) typ (礎): 1.65; Supply Current(Icc) (Run mode (per Mhz)) typ (礎): 250; DatasheetVersion: rev1, Apr-2012; PackageVersion: 2010; PackageReference: UFQFPN32; PackageDescription: 32-Pin Ultra Thin Fine Pitch Quad Flat No-Lead, 5 x 5 X 0.6 mm Body, 0.5 mm Pitch, Exposed Pad; ComponentLink1Description: Manufacturer URL; ComponentLink1URL: 封装库来自淘宝卖家 ID：黄晶宝石; ComponentLink2Description: Datasheet; ComponentLink2URL: http://www.st.com/internet/com/TECHNICAL_RESOURCES/TECHNICAL_LITERATURE/DATASHEET/DM00039193.pdf; ComponentLink3Description: STM32F0 Web Page; ComponentLink3URL: http://www.st.com/internet/mcu/subclass/1588.jsp
footprint UFQFPN32_N (QFN, 32-Leads, Body 5x5mm, Pitch 0.5mm, Thermal Pad 3.6x3.6mm, IPC Medium Density)
footprint UFQFPN32_L (QFN, 32-Leads, Body 5x5mm, Pitch 0.5mm, Thermal Pad 3.6x3.6mm, IPC High Density)
footprint UFQFPN32_M (QFN, 32-Leads, Body 5x5mm, Pitch 0.5mm, Thermal Pad 3.6x3.6mm, IPC Low Density)
part A pins: 2 PF0-OSC_IN (PF0), OSC_IN (io), 3 PF1-OSC_OUT (PF1), OSC_OUT (io), 4 NRST (io), 6 PA0, USART2_CTS, TIM2_CH1_ETR, COMP1_OUT, TSC_G1_IO1, ADC_IN0, COMP1_INM6, RTC_TAMP2, WKUP1 (io), 7 PA1, USART2_RTS, TIM2_CH2, TSC_G1_IO2, EVENTOUT, ADC_IN1, COMP1_INP (io), 8 PA2, USART2_TX, TIM2_CH3, TIM15_CH1, COMP2_OUT, TSC_G1_IO3, ADC_IN2, COMP2_INM6 (io), 9 PA3, USART2_RX, TIM2_CH4, TIM15_CH2, TSC_G1_IO4, ADC_IN3, COMP2_INP (io), 10 PA4, SPI1_NSS/I2S1_WS, USART2_CK, TIM14_CH1, TSC_G2_IO1, ADC_IN4, COMP1_INM4, COMP2_INM4, DAC1_OUT (io), 11 PA5, SPI1_SCK/I2S1_CK, CEC, TIM2_CH_ETR, TSC_G2_IO2, ADC_IN5, COMP1_INM5, COMP2_INM5 (io), 12 PA6, SPI1_MISO/I2S1_MCK, TIM3_CH1, TIM1_BKIN, TIM16_CH1, COMP1_OUT, TSC_G2_IO3, EVENTOUT, ADC_IN6 (io), 13 PA7, SPI1_MOSI/I2S1_SD, TIM3_CH2, TIM14_CH1, TIM1_CH1N, TIM17_CH1, COMP2_OUT, TSC_G2_IO4, EVENTOUT, ADC_IN7 (io), 14 PB0, TIM3_CH3, TIM1_CH2N, TSC_G3_IO2, EVENTOUT, ADC_IN8 (io), 15 PB1, TIM3_CH4, TIM14_CH1, TIM1_CH3N, TSC_G3_IO3, ADC_IN9 (io), 16 PB2, TSC_G3_IO4 (io), 18 PA8, USART1_CK, TIM1_CH1, EVENTOUT, MCO (io), 19 PA9, USART1_TX, TIM1_CH2, TIM15_BKIN, TSC_G4_IO1 (io), 20 PA10, USART1_RX, TIM1_CH3, TIM17_BKIN, TSC_G4_IO2 (io), 21 PA11, USART1_CTS, TIM1_CH4, COMP1_OUT, TSC_G4_IO3, EVENTOUT (io), 22 PA12, USART1_RTS, TIM1_ETR, COMP2_OUT, TSC_G4_IO4, EVENTOUT (io), 23 PA13 (SWDAT), IR_OUT, SWDAT (io), 24 PA14 (SWCLK), USART2_TX, SWCLK (io), 25 PA15, SPI1_NSS/I2S1_WS, USART2_RX, TIM2_CH_ETR, EVENTOUT (io), 26 PB3, SPI1_SCK/I2S1_CK, TIM2_CH2, TSC_G5_IO1, EVENTOUT (io), 27 PB4, SPI1_MISO/I2S1_MCK, TIM3_CH1, TSC_G5_IO2, EVENTOUT (io), 28 PB5, SPI1_MOSI/I2S1_SD, I2C1_SMBA, TIM16_BKIN, TIM3_CH2 (io), 29 PB6, I2C1_SCL, USART1_TX, TIM16_CH1N, TSC_G5_IO3 (io), 30 PB7, I2C1_SDA, USART1_RX, TIM17_CH1N, TSC_G5_IO4 (io), 31 BOOT0 (in), 32 PB8, I2C1_SCL, CEC, TIM16_CH1, TSC_SYNC (io)
part B pins: 1 VDD (power), 5 VDDA (power), 17 VDD (power), 33 VSS/VSSA (power)

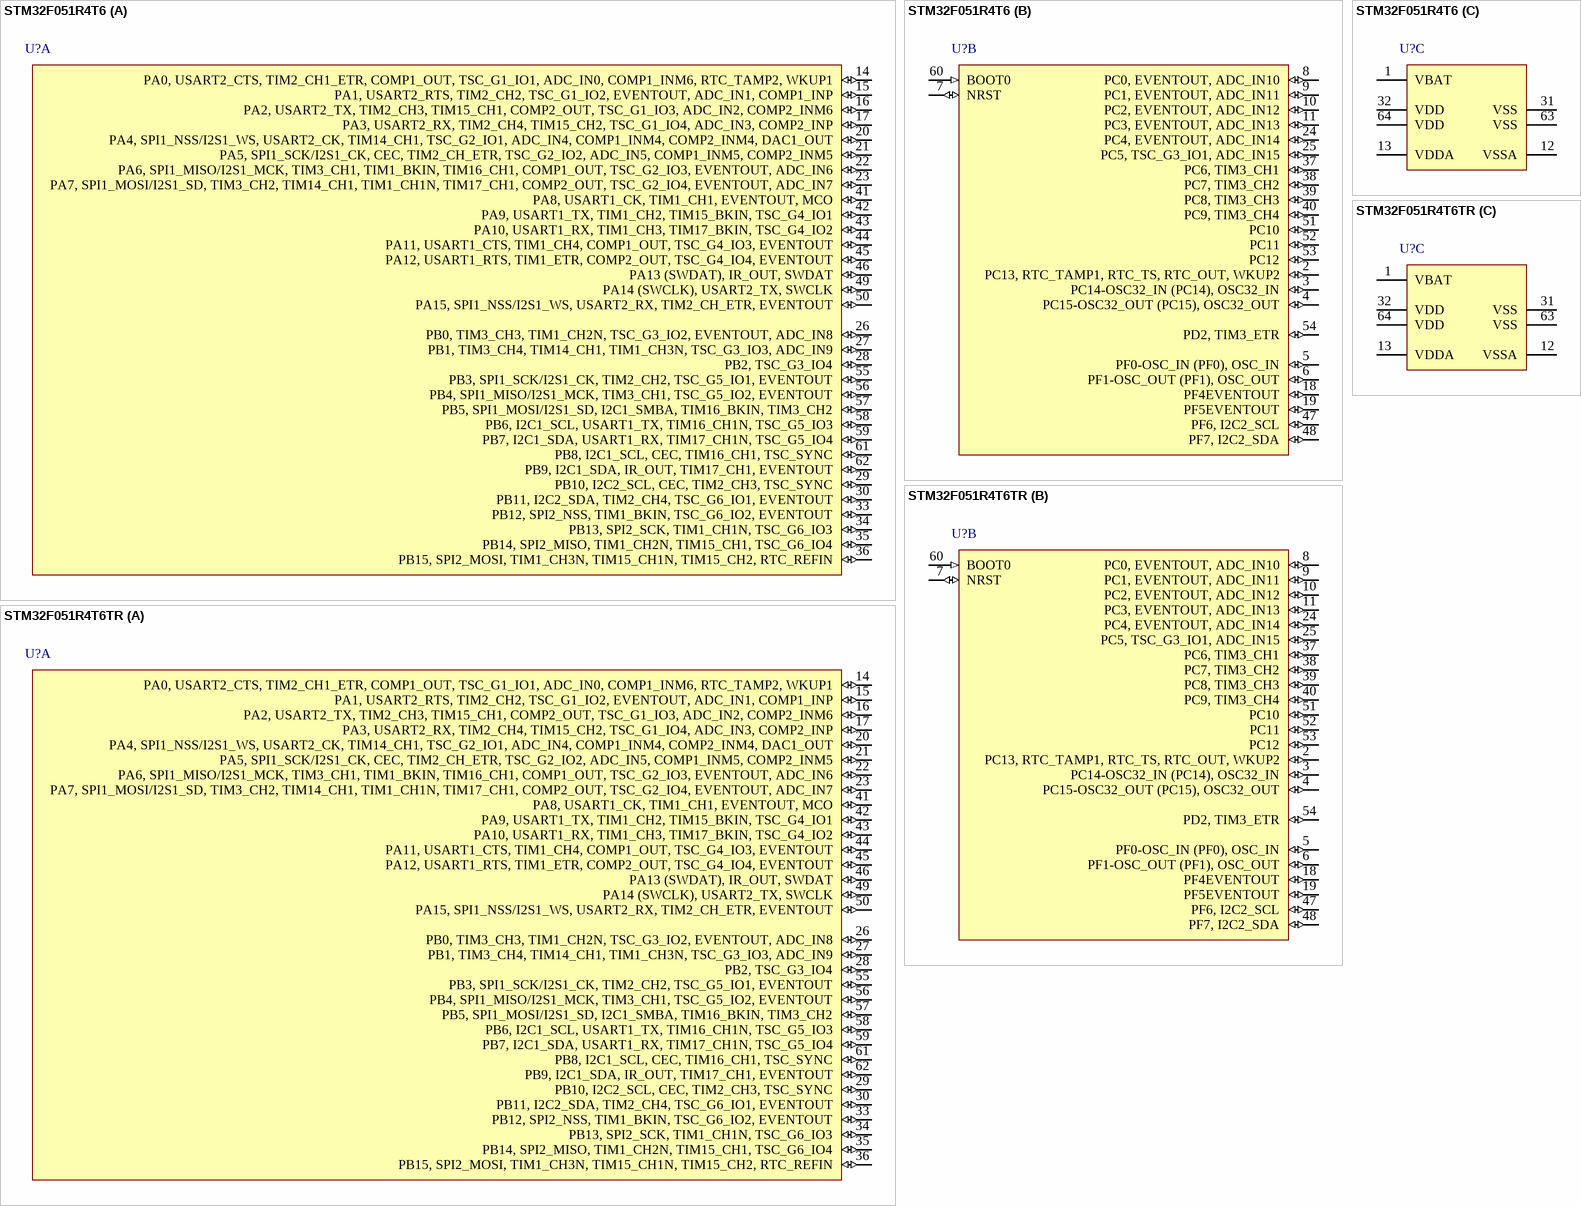
[diagram p5: symbols STM32F051R4T6 to STM32F051R4T6TR]

## STM32F051R4T6
designator U?
ARM Cortex-M0 32-bit RISC core (48 MHz max), 16kB Flash, 4 kB Internal RAM, 55 High Current I/Os, -40 to +85癈, 64-Pin LQFP, Tray; 16-bit timers (IC/OC/PWM): 8x16-bit; 32-bit timer (IC/OC/PWM): 1x32-bit; Other timer functions: 2 x WDG, RTC, 24-bit down counter; A/D Converter: 16x12-bit; Serial Interface: 1xSPI/I2S;1xI2C;1xUSART(IrDA, ISO 7816);CEC; Supply Current(Icc) (Lowest power mode) typ (礎): 1.65; Supply Current(Icc) (Run mode (per Mhz)) typ (礎): 250; DatasheetVersion: rev1, Apr-2012; PackageVersion: rev13, Apr-2011; PackageReference: LQFP64; PackageDescription: 64-Pin Low-Profile Quad Flat Pack, 10 x 10 mm Body, 0.5 mm Pitch (LQFP64); ComponentLink1Description: Manufacturer URL; ComponentLink1URL: http://www.st.com/; ComponentLink2Description: Datasheet; ComponentLink2URL: http://www.st.com/internet/com/TECHNICAL_RESOURCES/TECHNICAL_LITERATURE/DATASHEET/DM00039193.pdf; ComponentLink3Description: STM32F0 Web Page; ComponentLink3URL: http://www.st.com/internet/mcu/subclass/1588.jsp
footprint LQFP64_N (Thin QFP, 64-Leads, Body 10x10mm, Pitch 0.5mm, IPC Medium Density)
footprint LQFP64_L (Thin QFP, 64-Leads, Body 10x10mm, Pitch 0.5mm, IPC High Density)
footprint LQFP64_M (Thin QFP, 64-Leads, Body 10x10mm, Pitch 0.5mm, IPC Low Density)
part A pins: 14 PA0, USART2_CTS, TIM2_CH1_ETR, COMP1_OUT, TSC_G1_IO1, ADC_IN0, COMP1_INM6, RTC_TAMP2, WKUP1 (io), 15 PA1, USART2_RTS, TIM2_CH2, TSC_G1_IO2, EVENTOUT, ADC_IN1, COMP1_INP (io), 16 PA2, USART2_TX, TIM2_CH3, TIM15_CH1, COMP2_OUT, TSC_G1_IO3, ADC_IN2, COMP2_INM6 (io), 17 PA3, USART2_RX, TIM2_CH4, TIM15_CH2, TSC_G1_IO4, ADC_IN3, COMP2_INP (io), 20 PA4, SPI1_NSS/I2S1_WS, USART2_CK, TIM14_CH1, TSC_G2_IO1, ADC_IN4, COMP1_INM4, COMP2_INM4, DAC1_OUT (io), 21 PA5, SPI1_SCK/I2S1_CK, CEC, TIM2_CH_ETR, TSC_G2_IO2, ADC_IN5, COMP1_INM5, COMP2_INM5 (io), 22 PA6, SPI1_MISO/I2S1_MCK, TIM3_CH1, TIM1_BKIN, TIM16_CH1, COMP1_OUT, TSC_G2_IO3, EVENTOUT, ADC_IN6 (io), 23 PA7, SPI1_MOSI/I2S1_SD, TIM3_CH2, TIM14_CH1, TIM1_CH1N, TIM17_CH1, COMP2_OUT, TSC_G2_IO4, EVENTOUT, ADC_IN7 (io), 26 PB0, TIM3_CH3, TIM1_CH2N, TSC_G3_IO2, EVENTOUT, ADC_IN8 (io), 27 PB1, TIM3_CH4, TIM14_CH1, TIM1_CH3N, TSC_G3_IO3, ADC_IN9 (io), 28 PB2, TSC_G3_IO4 (io), 29 PB10, I2C2_SCL, CEC, TIM2_CH3, TSC_SYNC (io), 30 PB11, I2C2_SDA, TIM2_CH4, TSC_G6_IO1, EVENTOUT (io), 33 PB12, SPI2_NSS, TIM1_BKIN, TSC_G6_IO2, EVENTOUT (io), 34 PB13, SPI2_SCK, TIM1_CH1N, TSC_G6_IO3 (io), 35 PB14, SPI2_MISO, TIM1_CH2N, TIM15_CH1, TSC_G6_IO4 (io), 36 PB15, SPI2_MOSI, TIM1_CH3N, TIM15_CH1N, TIM15_CH2, RTC_REFIN (io), 41 PA8, USART1_CK, TIM1_CH1, EVENTOUT, MCO (io), 42 PA9, USART1_TX, TIM1_CH2, TIM15_BKIN, TSC_G4_IO1 (io), 43 PA10, USART1_RX, TIM1_CH3, TIM17_BKIN, TSC_G4_IO2 (io), 44 PA11, USART1_CTS, TIM1_CH4, COMP1_OUT, TSC_G4_IO3, EVENTOUT (io), 45 PA12, USART1_RTS, TIM1_ETR, COMP2_OUT, TSC_G4_IO4, EVENTOUT (io), 46 PA13 (SWDAT), IR_OUT, SWDAT (io), 49 PA14 (SWCLK), USART2_TX, SWCLK (io), 50 PA15, SPI1_NSS/I2S1_WS, USART2_RX, TIM2_CH_ETR, EVENTOUT (io), 55 PB3, SPI1_SCK/I2S1_CK, TIM2_CH2, TSC_G5_IO1, EVENTOUT (io), 56 PB4, SPI1_MISO/I2S1_MCK, TIM3_CH1, TSC_G5_IO2, EVENTOUT (io), 57 PB5, SPI1_MOSI/I2S1_SD, I2C1_SMBA, TIM16_BKIN, TIM3_CH2 (io), 58 PB6, I2C1_SCL, USART1_TX, TIM16_CH1N, TSC_G5_IO3 (io), 59 PB7, I2C1_SDA, USART1_RX, TIM17_CH1N, TSC_G5_IO4 (io), 61 PB8, I2C1_SCL, CEC, TIM16_CH1, TSC_SYNC (io), 62 PB9, I2C1_SDA, IR_OUT, TIM17_CH1, EVENTOUT (io)
part B pins: 2 PC13, RTC_TAMP1, RTC_TS, RTC_OUT, WKUP2 (io), 3 PC14-OSC32_IN (PC14), OSC32_IN (io), 4 PC15-OSC32_OUT (PC15), OSC32_OUT (io), 5 PF0-OSC_IN (PF0), OSC_IN (io), 6 PF1-OSC_OUT (PF1), OSC_OUT (io), 7 NRST (io), 8 PC0, EVENTOUT, ADC_IN10 (io), 9 PC1, EVENTOUT, ADC_IN11 (io), 10 PC2, EVENTOUT, ADC_IN12 (io), 11 PC3, EVENTOUT, ADC_IN13 (io), 18 PF4EVENTOUT (io), 19 PF5EVENTOUT (io), 24 PC4, EVENTOUT, ADC_IN14 (io), 25 PC5, TSC_G3_IO1, ADC_IN15 (io), 37 PC6, TIM3_CH1 (io), 38 PC7, TIM3_CH2 (io), 39 PC8, TIM3_CH3 (io), 40 PC9, TIM3_CH4 (io), 47 PF6, I2C2_SCL (io), 48 PF7, I2C2_SDA (io), 51 PC10 (io), 52 PC11 (io), 53 PC12 (io), 54 PD2, TIM3_ETR (io), 60 BOOT0 (in)
part C pins: 1 VBAT (power), 12 VSSA (power), 13 VDDA (power), 31 VSS (power), 32 VDD (power), 63 VSS (power), 64 VDD (power)

## STM32F051R4T6TR
designator U?
ARM Cortex-M0 32-bit RISC core (48 MHz max), 16kB Flash, 4 kB Internal RAM, 55 High Current I/Os, -40 to +85癈, 64-Pin LQFP, Tape and Reel; 16-bit timers (IC/OC/PWM): 8x16-bit; 32-bit timer (IC/OC/PWM): 1x32-bit; Other timer functions: 2 x WDG, RTC, 24-bit down counter; A/D Converter: 16x12-bit; Serial Interface: 1xSPI/I2S;1xI2C;1xUSART(IrDA, ISO 7816);CEC; Supply Current(Icc) (Lowest power mode) typ (礎): 1.65; Supply Current(Icc) (Run mode (per Mhz)) typ (礎): 250; DatasheetVersion: rev1, Apr-2012; PackageVersion: rev13, Apr-2011; PackageReference: LQFP64; PackageDescription: 64-Pin Low-Profile Quad Flat Pack, 10 x 10 mm Body, 0.5 mm Pitch (LQFP64); ComponentLink1Description: Manufacturer URL; ComponentLink1URL: http://www.st.com/; ComponentLink2Description: Datasheet; ComponentLink2URL: http://www.st.com/internet/com/TECHNICAL_RESOURCES/TECHNICAL_LITERATURE/DATASHEET/DM00039193.pdf; ComponentLink3Description: STM32F0 Web Page; ComponentLink3URL: http://www.st.com/internet/mcu/subclass/1588.jsp
footprint LQFP64_N (Thin QFP, 64-Leads, Body 10x10mm, Pitch 0.5mm, IPC Medium Density)
footprint LQFP64_L (Thin QFP, 64-Leads, Body 10x10mm, Pitch 0.5mm, IPC High Density)
footprint LQFP64_M (Thin QFP, 64-Leads, Body 10x10mm, Pitch 0.5mm, IPC Low Density)
part A pins: 14 PA0, USART2_CTS, TIM2_CH1_ETR, COMP1_OUT, TSC_G1_IO1, ADC_IN0, COMP1_INM6, RTC_TAMP2, WKUP1 (io), 15 PA1, USART2_RTS, TIM2_CH2, TSC_G1_IO2, EVENTOUT, ADC_IN1, COMP1_INP (io), 16 PA2, USART2_TX, TIM2_CH3, TIM15_CH1, COMP2_OUT, TSC_G1_IO3, ADC_IN2, COMP2_INM6 (io), 17 PA3, USART2_RX, TIM2_CH4, TIM15_CH2, TSC_G1_IO4, ADC_IN3, COMP2_INP (io), 20 PA4, SPI1_NSS/I2S1_WS, USART2_CK, TIM14_CH1, TSC_G2_IO1, ADC_IN4, COMP1_INM4, COMP2_INM4, DAC1_OUT (io), 21 PA5, SPI1_SCK/I2S1_CK, CEC, TIM2_CH_ETR, TSC_G2_IO2, ADC_IN5, COMP1_INM5, COMP2_INM5 (io), 22 PA6, SPI1_MISO/I2S1_MCK, TIM3_CH1, TIM1_BKIN, TIM16_CH1, COMP1_OUT, TSC_G2_IO3, EVENTOUT, ADC_IN6 (io), 23 PA7, SPI1_MOSI/I2S1_SD, TIM3_CH2, TIM14_CH1, TIM1_CH1N, TIM17_CH1, COMP2_OUT, TSC_G2_IO4, EVENTOUT, ADC_IN7 (io), 26 PB0, TIM3_CH3, TIM1_CH2N, TSC_G3_IO2, EVENTOUT, ADC_IN8 (io), 27 PB1, TIM3_CH4, TIM14_CH1, TIM1_CH3N, TSC_G3_IO3, ADC_IN9 (io), 28 PB2, TSC_G3_IO4 (io), 29 PB10, I2C2_SCL, CEC, TIM2_CH3, TSC_SYNC (io), 30 PB11, I2C2_SDA, TIM2_CH4, TSC_G6_IO1, EVENTOUT (io), 33 PB12, SPI2_NSS, TIM1_BKIN, TSC_G6_IO2, EVENTOUT (io), 34 PB13, SPI2_SCK, TIM1_CH1N, TSC_G6_IO3 (io), 35 PB14, SPI2_MISO, TIM1_CH2N, TIM15_CH1, TSC_G6_IO4 (io), 36 PB15, SPI2_MOSI, TIM1_CH3N, TIM15_CH1N, TIM15_CH2, RTC_REFIN (io), 41 PA8, USART1_CK, TIM1_CH1, EVENTOUT, MCO (io), 42 PA9, USART1_TX, TIM1_CH2, TIM15_BKIN, TSC_G4_IO1 (io), 43 PA10, USART1_RX, TIM1_CH3, TIM17_BKIN, TSC_G4_IO2 (io), 44 PA11, USART1_CTS, TIM1_CH4, COMP1_OUT, TSC_G4_IO3, EVENTOUT (io), 45 PA12, USART1_RTS, TIM1_ETR, COMP2_OUT, TSC_G4_IO4, EVENTOUT (io), 46 PA13 (SWDAT), IR_OUT, SWDAT (io), 49 PA14 (SWCLK), USART2_TX, SWCLK (io), 50 PA15, SPI1_NSS/I2S1_WS, USART2_RX, TIM2_CH_ETR, EVENTOUT (io), 55 PB3, SPI1_SCK/I2S1_CK, TIM2_CH2, TSC_G5_IO1, EVENTOUT (io), 56 PB4, SPI1_MISO/I2S1_MCK, TIM3_CH1, TSC_G5_IO2, EVENTOUT (io), 57 PB5, SPI1_MOSI/I2S1_SD, I2C1_SMBA, TIM16_BKIN, TIM3_CH2 (io), 58 PB6, I2C1_SCL, USART1_TX, TIM16_CH1N, TSC_G5_IO3 (io), 59 PB7, I2C1_SDA, USART1_RX, TIM17_CH1N, TSC_G5_IO4 (io), 61 PB8, I2C1_SCL, CEC, TIM16_CH1, TSC_SYNC (io), 62 PB9, I2C1_SDA, IR_OUT, TIM17_CH1, EVENTOUT (io)
part B pins: 2 PC13, RTC_TAMP1, RTC_TS, RTC_OUT, WKUP2 (io), 3 PC14-OSC32_IN (PC14), OSC32_IN (io), 4 PC15-OSC32_OUT (PC15), OSC32_OUT (io), 5 PF0-OSC_IN (PF0), OSC_IN (io), 6 PF1-OSC_OUT (PF1), OSC_OUT (io), 7 NRST (io), 8 PC0, EVENTOUT, ADC_IN10 (io), 9 PC1, EVENTOUT, ADC_IN11 (io), 10 PC2, EVENTOUT, ADC_IN12 (io), 11 PC3, EVENTOUT, ADC_IN13 (io), 18 PF4EVENTOUT (io), 19 PF5EVENTOUT (io), 24 PC4, EVENTOUT, ADC_IN14 (io), 25 PC5, TSC_G3_IO1, ADC_IN15 (io), 37 PC6, TIM3_CH1 (io), 38 PC7, TIM3_CH2 (io), 39 PC8, TIM3_CH3 (io), 40 PC9, TIM3_CH4 (io), 47 PF6, I2C2_SCL (io), 48 PF7, I2C2_SDA (io), 51 PC10 (io), 52 PC11 (io), 53 PC12 (io), 54 PD2, TIM3_ETR (io), 60 BOOT0 (in)
part C pins: 1 VBAT (power), 12 VSSA (power), 13 VDDA (power), 31 VSS (power), 32 VDD (power), 63 VSS (power), 64 VDD (power)

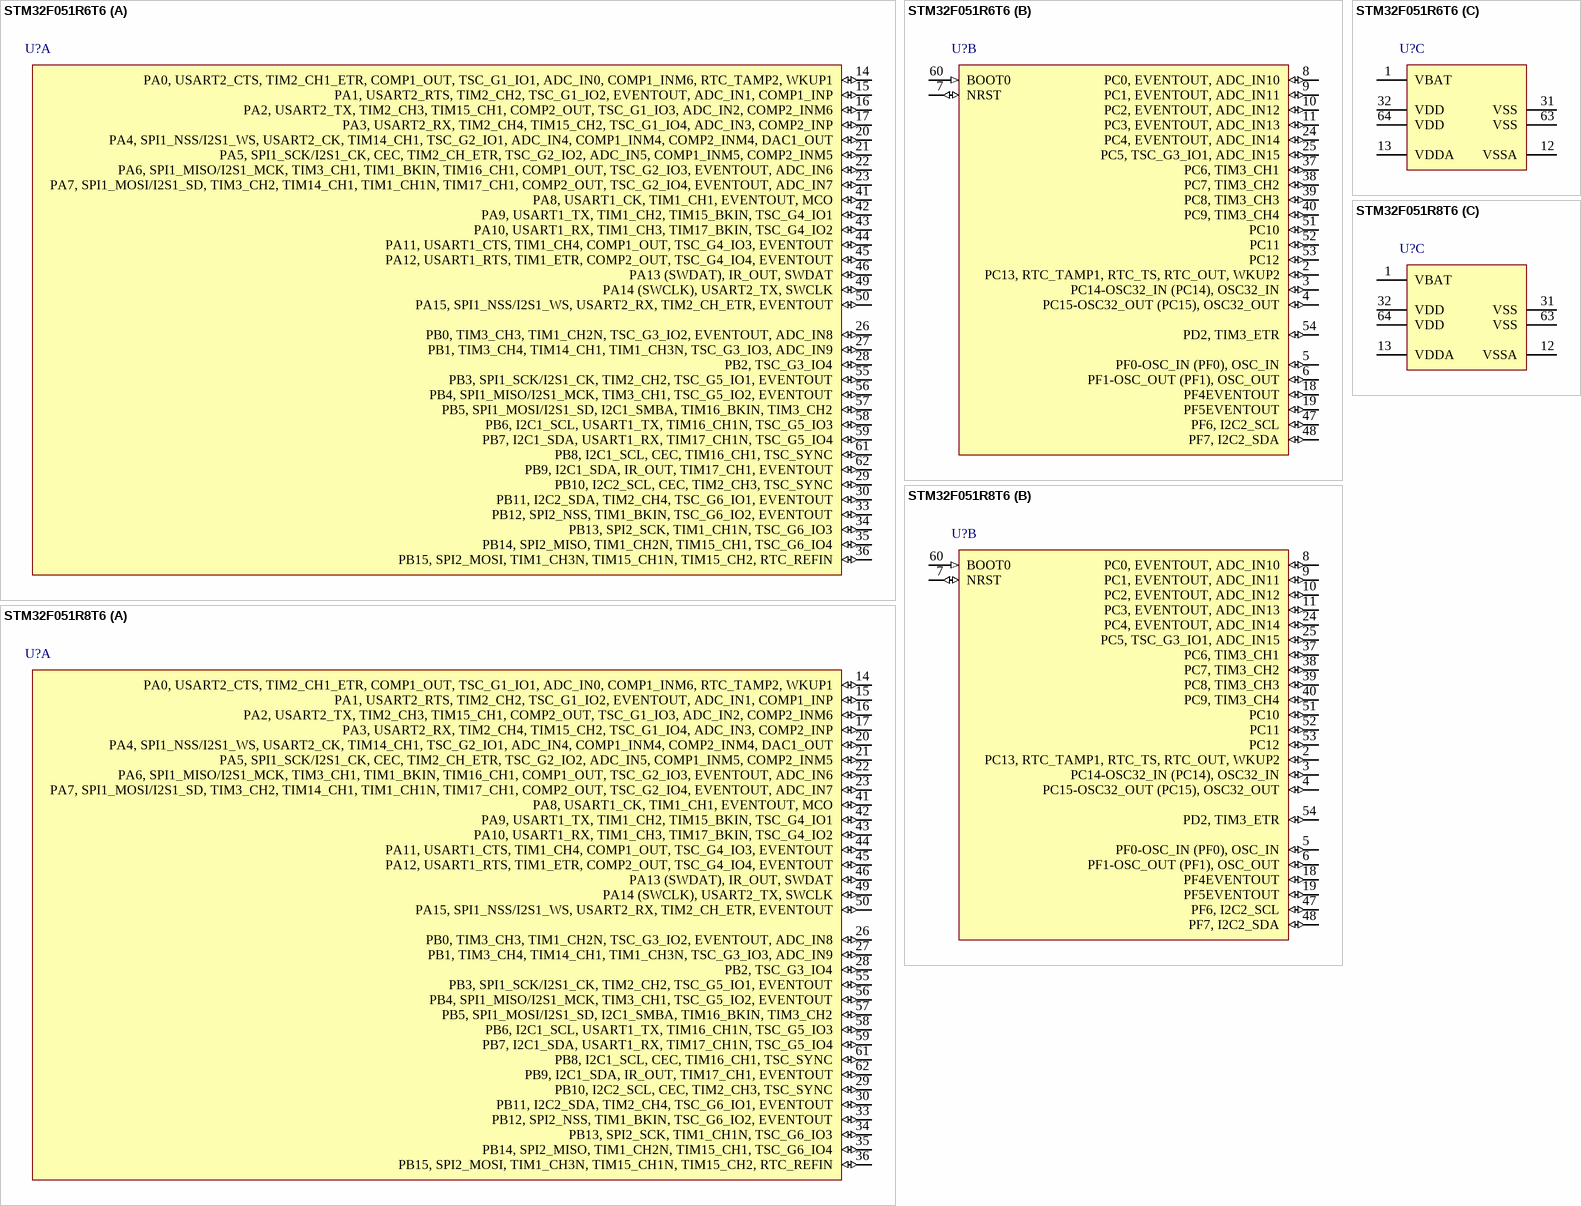
[diagram p6: symbols STM32F051R6T6 to STM32F051R8T6]